# Altium schematic symbol library mcu_8bit_avr_mega16-32.SchLib: 39 symbols
Pins are listed as number, name and electrical type; pins without a type are passive.

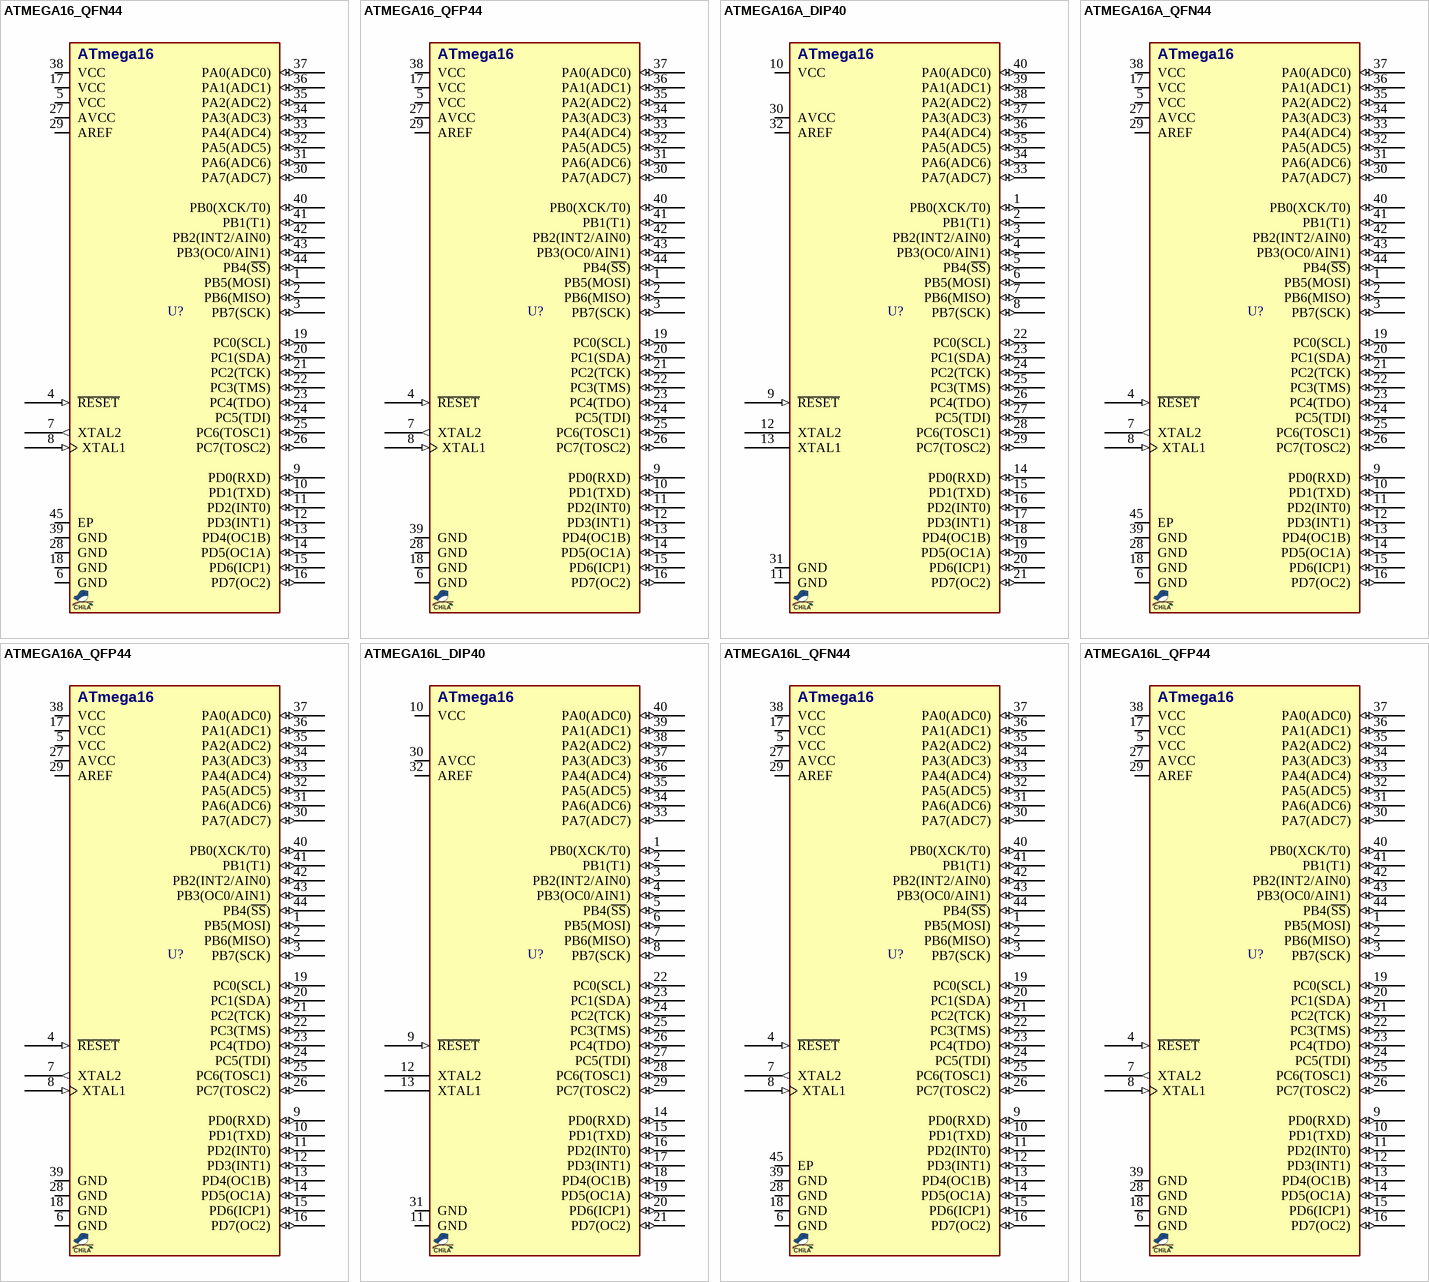
[diagram p0: symbols ATMEGA16_QFN44 to ATMEGA16L_QFP44]

## ATMEGA16_QFN44
designator U?, comment ATMEGA16  (value not drawn)
MCU, AVR, 8-Bit, 16KB, 1KB RAM, 16MHz; MANF_P#: ATMEGA16-16MU; DESC: 512B EEPROM; MANF: ATMEL/MICROCHIP; PARAM2: 4.5~5.5V; PARAM: 16KB, 1KB RAM, 16MHz, -40~85°C; PRICE: 4.5$; VALUE: ATMEGA16
footprint QFN50_44T (QFN-44, 44ML, pitch:0.5mm, 7x7x1mm)
pins: 1 PB5(MOSI) (io), 2 PB6(MISO) (io), 3 PB7(SCK) (io), 4 ~{RESET} (in), 5 VCC (power), 6 GND (power), 7 XTAL2 (out), 8 XTAL1 (in), 9 PD0(RXD) (io), 10 PD1(TXD) (io), 11 PD2(INT0) (io), 12 PD3(INT1) (io), 13 PD4(OC1B) (io), 14 PD5(OC1A) (io), 15 PD6(ICP1) (io), 16 PD7(OC2) (io), 17 VCC (power), 18 GND (power), 19 PC0(SCL) (io), 20 PC1(SDA) (io), 21 PC2(TCK) (io), 22 PC3(TMS) (io), 23 PC4(TDO) (io), 24 PC5(TDI) (io), 25 PC6(TOSC1) (io), 26 PC7(TOSC2) (io), 27 AVCC (power), 28 GND (power), 29 AREF (power), 30 PA7(ADC7) (io), 31 PA6(ADC6) (io), 32 PA5(ADC5) (io), 33 PA4(ADC4) (io), 34 PA3(ADC3) (io), 35 PA2(ADC2) (io), 36 PA1(ADC1) (io), 37 PA0(ADC0) (io), 38 VCC (power), 39 GND (power), 40 PB0(XCK/T0) (io), 41 PB1(T1) (io), 42 PB2(INT2/AIN0) (io), 43 PB3(OC0/AIN1) (io), 44 PB4(~{SS}) (io), 45 EP (power)
text: ATmega16

## ATMEGA16_QFP44
designator U?, comment ATMEGA16  (value not drawn)
MCU, AVR, 8-Bit, 16KB, 1KB RAM, 16MHz; MANF_P#: ATMEGA16-16AU; DESC: 512B EEPROM; MANF: ATMEL/MICROCHIP; PARAM2: 4.5~5.5V; PARAM: 16KB, 1KB RAM, 16MHz, -40~85°C; PRICE: 4.5$; VALUE: ATMEGA16
footprint QFG80_44 (TQFP44, PQFP44, A44 (Cypress), QFP44/MQFP44N (Dallas), VQ44,VQG44 (Xilinx), MS-026ACB, MS-022AB(JEDEC), 44A, 10.5X10.5, 0.8mm)
pins: 1 PB5(MOSI) (io), 2 PB6(MISO) (io), 3 PB7(SCK) (io), 4 ~{RESET} (in), 5 VCC (power), 6 GND (power), 7 XTAL2 (out), 8 XTAL1 (in), 9 PD0(RXD) (io), 10 PD1(TXD) (io), 11 PD2(INT0) (io), 12 PD3(INT1) (io), 13 PD4(OC1B) (io), 14 PD5(OC1A) (io), 15 PD6(ICP1) (io), 16 PD7(OC2) (io), 17 VCC (power), 18 GND (power), 19 PC0(SCL) (io), 20 PC1(SDA) (io), 21 PC2(TCK) (io), 22 PC3(TMS) (io), 23 PC4(TDO) (io), 24 PC5(TDI) (io), 25 PC6(TOSC1) (io), 26 PC7(TOSC2) (io), 27 AVCC (power), 28 GND (power), 29 AREF (power), 30 PA7(ADC7) (io), 31 PA6(ADC6) (io), 32 PA5(ADC5) (io), 33 PA4(ADC4) (io), 34 PA3(ADC3) (io), 35 PA2(ADC2) (io), 36 PA1(ADC1) (io), 37 PA0(ADC0) (io), 38 VCC (power), 39 GND (power), 40 PB0(XCK/T0) (io), 41 PB1(T1) (io), 42 PB2(INT2/AIN0) (io), 43 PB3(OC0/AIN1) (io), 44 PB4(~{SS}) (io)
text: ATmega16

## ATMEGA16A_DIP40
designator U?, comment ATMEGA16  (value not drawn)
MCU, AVR, 8-Bit, 16KB, 1KB RAM, 16MHz; MANF_P#: ATMEGA16A-PU; DESC: 512B EEPROM; MANF: ATMEL/MICROCHIP; PARAM2: 2.7~5.5V; PARAM: 16KB, 1KB RAM, 16MHz, -40~85°C; PRICE: 3.2$; VALUE: ATMEGA16
footprint DIP_40DW (DIP, pitch 2.54mm, 600mil Width)
pins: 1 PB0(XCK/T0) (io), 2 PB1(T1) (io), 3 PB2(INT2/AIN0) (io), 4 PB3(OC0/AIN1) (io), 5 PB4(~{SS}) (io), 6 PB5(MOSI) (io), 7 PB6(MISO) (io), 8 PB7(SCK) (io), 9 ~{RESET} (in), 10 VCC (power), 11 GND (power), 12 XTAL2, 13 XTAL1, 14 PD0(RXD) (io), 15 PD1(TXD) (io), 16 PD2(INT0) (io), 17 PD3(INT1) (io), 18 PD4(OC1B) (io), 19 PD5(OC1A) (io), 20 PD6(ICP1) (io), 21 PD7(OC2) (io), 22 PC0(SCL) (io), 23 PC1(SDA) (io), 24 PC2(TCK) (io), 25 PC3(TMS) (io), 26 PC4(TDO) (io), 27 PC5(TDI) (io), 28 PC6(TOSC1) (io), 29 PC7(TOSC2) (io), 30 AVCC (power), 31 GND (power), 32 AREF (power), 33 PA7(ADC7) (io), 34 PA6(ADC6) (io), 35 PA5(ADC5) (io), 36 PA4(ADC4) (io), 37 PA3(ADC3) (io), 38 PA2(ADC2) (io), 39 PA1(ADC1) (io), 40 PA0(ADC0) (io)
text: ATmega16

## ATMEGA16A_QFN44
designator U?, comment ATMEGA16  (value not drawn)
MCU, AVR, 8-Bit, 16KB, 1KB RAM, 16MHz; MANF_P#: ATMEGA16A-MU; DESC: 512B EEPROM; MANF: ATMEL/MICROCHIP; PARAM2: 2.7~5.5V; PARAM: 16KB, 1KB RAM, 16MHz, -40~85°C; PRICE: 3$; VALUE: ATMEGA16
footprint QFN50_44T (QFN-44, 44ML, pitch:0.5mm, 7x7x1mm)
pins: 1 PB5(MOSI) (io), 2 PB6(MISO) (io), 3 PB7(SCK) (io), 4 ~{RESET} (in), 5 VCC (power), 6 GND (power), 7 XTAL2 (out), 8 XTAL1 (in), 9 PD0(RXD) (io), 10 PD1(TXD) (io), 11 PD2(INT0) (io), 12 PD3(INT1) (io), 13 PD4(OC1B) (io), 14 PD5(OC1A) (io), 15 PD6(ICP1) (io), 16 PD7(OC2) (io), 17 VCC (power), 18 GND (power), 19 PC0(SCL) (io), 20 PC1(SDA) (io), 21 PC2(TCK) (io), 22 PC3(TMS) (io), 23 PC4(TDO) (io), 24 PC5(TDI) (io), 25 PC6(TOSC1) (io), 26 PC7(TOSC2) (io), 27 AVCC (power), 28 GND (power), 29 AREF (power), 30 PA7(ADC7) (io), 31 PA6(ADC6) (io), 32 PA5(ADC5) (io), 33 PA4(ADC4) (io), 34 PA3(ADC3) (io), 35 PA2(ADC2) (io), 36 PA1(ADC1) (io), 37 PA0(ADC0) (io), 38 VCC (power), 39 GND (power), 40 PB0(XCK/T0) (io), 41 PB1(T1) (io), 42 PB2(INT2/AIN0) (io), 43 PB3(OC0/AIN1) (io), 44 PB4(~{SS}) (io), 45 EP (power)
text: ATmega16

## ATMEGA16A_QFP44
designator U?, comment ATMEGA16  (value not drawn)
MCU, AVR, 8-Bit, 16KB, 1KB RAM, 16MHz; MANF_P#: ATMEGA16A-AU; DESC: 512B EEPROM; MANF: ATMEL/MICROCHIP; PARAM2: 2.7~5.5V; PARAM: 16KB, 1KB RAM, 16MHz, -40~85°C; PRICE: 3$; VALUE: ATMEGA16
footprint QFG80_44 (TQFP44, PQFP44, A44 (Cypress), QFP44/MQFP44N (Dallas), VQ44,VQG44 (Xilinx), MS-026ACB, MS-022AB(JEDEC), 44A, 10.5X10.5, 0.8mm)
pins: 1 PB5(MOSI) (io), 2 PB6(MISO) (io), 3 PB7(SCK) (io), 4 ~{RESET} (in), 5 VCC (power), 6 GND (power), 7 XTAL2 (out), 8 XTAL1 (in), 9 PD0(RXD) (io), 10 PD1(TXD) (io), 11 PD2(INT0) (io), 12 PD3(INT1) (io), 13 PD4(OC1B) (io), 14 PD5(OC1A) (io), 15 PD6(ICP1) (io), 16 PD7(OC2) (io), 17 VCC (power), 18 GND (power), 19 PC0(SCL) (io), 20 PC1(SDA) (io), 21 PC2(TCK) (io), 22 PC3(TMS) (io), 23 PC4(TDO) (io), 24 PC5(TDI) (io), 25 PC6(TOSC1) (io), 26 PC7(TOSC2) (io), 27 AVCC (power), 28 GND (power), 29 AREF (power), 30 PA7(ADC7) (io), 31 PA6(ADC6) (io), 32 PA5(ADC5) (io), 33 PA4(ADC4) (io), 34 PA3(ADC3) (io), 35 PA2(ADC2) (io), 36 PA1(ADC1) (io), 37 PA0(ADC0) (io), 38 VCC (power), 39 GND (power), 40 PB0(XCK/T0) (io), 41 PB1(T1) (io), 42 PB2(INT2/AIN0) (io), 43 PB3(OC0/AIN1) (io), 44 PB4(~{SS}) (io)
text: ATmega16

## ATMEGA16L_DIP40
designator U?, comment ATMEGA16  (value not drawn)
MCU, AVR, 8-Bit, 16KB, 1KB RAM, 8MHz; MANF_P#: ATMEGA16L-8PU; DESC: 512B EEPROM; MANF: ATMEL/MICROCHIP; PARAM2: 2.7~5.5V; PARAM: 16KB, 1KB RAM, 8MHz, -40~85°C; PRICE: 4.6$; VALUE: ATMEGA16
footprint DIP_40DW (DIP, pitch 2.54mm, 600mil Width)
pins: 1 PB0(XCK/T0) (io), 2 PB1(T1) (io), 3 PB2(INT2/AIN0) (io), 4 PB3(OC0/AIN1) (io), 5 PB4(~{SS}) (io), 6 PB5(MOSI) (io), 7 PB6(MISO) (io), 8 PB7(SCK) (io), 9 ~{RESET} (in), 10 VCC (power), 11 GND (power), 12 XTAL2, 13 XTAL1, 14 PD0(RXD) (io), 15 PD1(TXD) (io), 16 PD2(INT0) (io), 17 PD3(INT1) (io), 18 PD4(OC1B) (io), 19 PD5(OC1A) (io), 20 PD6(ICP1) (io), 21 PD7(OC2) (io), 22 PC0(SCL) (io), 23 PC1(SDA) (io), 24 PC2(TCK) (io), 25 PC3(TMS) (io), 26 PC4(TDO) (io), 27 PC5(TDI) (io), 28 PC6(TOSC1) (io), 29 PC7(TOSC2) (io), 30 AVCC (power), 31 GND (power), 32 AREF (power), 33 PA7(ADC7) (io), 34 PA6(ADC6) (io), 35 PA5(ADC5) (io), 36 PA4(ADC4) (io), 37 PA3(ADC3) (io), 38 PA2(ADC2) (io), 39 PA1(ADC1) (io), 40 PA0(ADC0) (io)
text: ATmega16

## ATMEGA16L_QFN44
designator U?, comment ATMEGA16  (value not drawn)
MCU, AVR, 8-Bit, 16KB, 1KB RAM, 8MHz; MANF_P#: ATMEGA16L-8MU; DESC: 512B EEPROM; MANF: ATMEL/MICROCHIP; PARAM2: 2.7~5.5V; PARAM: 16KB, 1KB RAM, 8MHz, -40~85°C; PRICE: 4.6$; VALUE: ATMEGA16
footprint QFN50_44T (QFN-44, 44ML, pitch:0.5mm, 7x7x1mm)
pins: 1 PB5(MOSI) (io), 2 PB6(MISO) (io), 3 PB7(SCK) (io), 4 ~{RESET} (in), 5 VCC (power), 6 GND (power), 7 XTAL2 (out), 8 XTAL1 (in), 9 PD0(RXD) (io), 10 PD1(TXD) (io), 11 PD2(INT0) (io), 12 PD3(INT1) (io), 13 PD4(OC1B) (io), 14 PD5(OC1A) (io), 15 PD6(ICP1) (io), 16 PD7(OC2) (io), 17 VCC (power), 18 GND (power), 19 PC0(SCL) (io), 20 PC1(SDA) (io), 21 PC2(TCK) (io), 22 PC3(TMS) (io), 23 PC4(TDO) (io), 24 PC5(TDI) (io), 25 PC6(TOSC1) (io), 26 PC7(TOSC2) (io), 27 AVCC (power), 28 GND (power), 29 AREF (power), 30 PA7(ADC7) (io), 31 PA6(ADC6) (io), 32 PA5(ADC5) (io), 33 PA4(ADC4) (io), 34 PA3(ADC3) (io), 35 PA2(ADC2) (io), 36 PA1(ADC1) (io), 37 PA0(ADC0) (io), 38 VCC (power), 39 GND (power), 40 PB0(XCK/T0) (io), 41 PB1(T1) (io), 42 PB2(INT2/AIN0) (io), 43 PB3(OC0/AIN1) (io), 44 PB4(~{SS}) (io), 45 EP (power)
text: ATmega16

## ATMEGA16L_QFP44
designator U?, comment ATMEGA16  (value not drawn)
MCU, AVR, 8-Bit, 16KB, 1KB RAM, 8MHz; MANF_P#: ATMEGA16L-8AU; DESC: 512B EEPROM; MANF: ATMEL/MICROCHIP; PARAM2: 2.7~5.5V; PARAM: 16KB, 1KB RAM, 8MHz, -40~85°C; PRICE: 4.6$; VALUE: ATMEGA16
footprint QFG80_44 (TQFP44, PQFP44, A44 (Cypress), QFP44/MQFP44N (Dallas), VQ44,VQG44 (Xilinx), MS-026ACB, MS-022AB(JEDEC), 44A, 10.5X10.5, 0.8mm)
pins: 1 PB5(MOSI) (io), 2 PB6(MISO) (io), 3 PB7(SCK) (io), 4 ~{RESET} (in), 5 VCC (power), 6 GND (power), 7 XTAL2 (out), 8 XTAL1 (in), 9 PD0(RXD) (io), 10 PD1(TXD) (io), 11 PD2(INT0) (io), 12 PD3(INT1) (io), 13 PD4(OC1B) (io), 14 PD5(OC1A) (io), 15 PD6(ICP1) (io), 16 PD7(OC2) (io), 17 VCC (power), 18 GND (power), 19 PC0(SCL) (io), 20 PC1(SDA) (io), 21 PC2(TCK) (io), 22 PC3(TMS) (io), 23 PC4(TDO) (io), 24 PC5(TDI) (io), 25 PC6(TOSC1) (io), 26 PC7(TOSC2) (io), 27 AVCC (power), 28 GND (power), 29 AREF (power), 30 PA7(ADC7) (io), 31 PA6(ADC6) (io), 32 PA5(ADC5) (io), 33 PA4(ADC4) (io), 34 PA3(ADC3) (io), 35 PA2(ADC2) (io), 36 PA1(ADC1) (io), 37 PA0(ADC0) (io), 38 VCC (power), 39 GND (power), 40 PB0(XCK/T0) (io), 41 PB1(T1) (io), 42 PB2(INT2/AIN0) (io), 43 PB3(OC0/AIN1) (io), 44 PB4(~{SS}) (io)
text: ATmega16

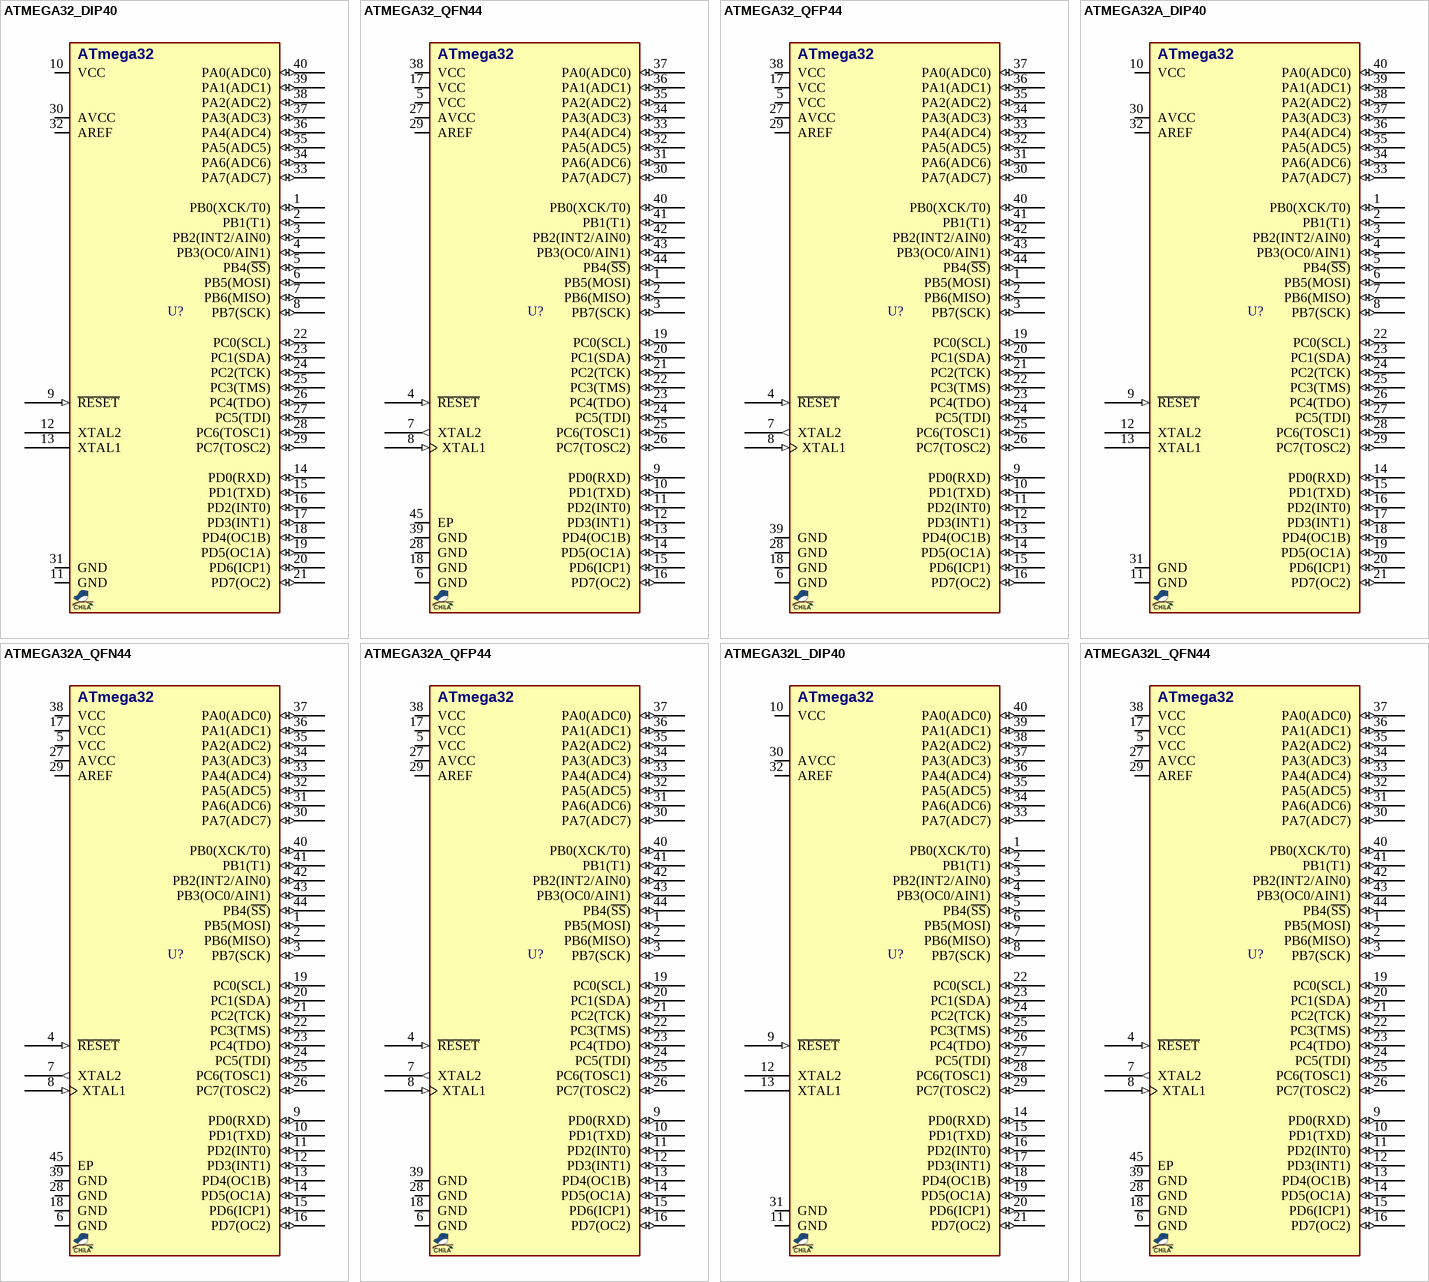
[diagram p1: symbols ATMEGA32_DIP40 to ATMEGA32L_QFN44]

## ATMEGA32_DIP40
designator U?, comment ATMEGA32  (value not drawn)
MCU, AVR, 8-Bit, 32KB, 2KB RAM, 16MHz; MANF_P#: ATMEGA32-16PU; DESC: 1KB EEPROM; MANF: ATMEL/MICROCHIP; PARAM2: 4.5~5.5V; PARAM: 32KB, 2KB RAM, 16MHz, -40~85°C; PRICE: 5.5$; VALUE: ATMEGA32
footprint DIP_40DW (DIP, pitch 2.54mm, 600mil Width)
pins: 1 PB0(XCK/T0) (io), 2 PB1(T1) (io), 3 PB2(INT2/AIN0) (io), 4 PB3(OC0/AIN1) (io), 5 PB4(~{SS}) (io), 6 PB5(MOSI) (io), 7 PB6(MISO) (io), 8 PB7(SCK) (io), 9 ~{RESET} (in), 10 VCC (power), 11 GND (power), 12 XTAL2, 13 XTAL1, 14 PD0(RXD) (io), 15 PD1(TXD) (io), 16 PD2(INT0) (io), 17 PD3(INT1) (io), 18 PD4(OC1B) (io), 19 PD5(OC1A) (io), 20 PD6(ICP1) (io), 21 PD7(OC2) (io), 22 PC0(SCL) (io), 23 PC1(SDA) (io), 24 PC2(TCK) (io), 25 PC3(TMS) (io), 26 PC4(TDO) (io), 27 PC5(TDI) (io), 28 PC6(TOSC1) (io), 29 PC7(TOSC2) (io), 30 AVCC (power), 31 GND (power), 32 AREF (power), 33 PA7(ADC7) (io), 34 PA6(ADC6) (io), 35 PA5(ADC5) (io), 36 PA4(ADC4) (io), 37 PA3(ADC3) (io), 38 PA2(ADC2) (io), 39 PA1(ADC1) (io), 40 PA0(ADC0) (io)
text: ATmega32

## ATMEGA32_QFN44
designator U?, comment ATMEGA32  (value not drawn)
MCU, AVR, 8-Bit, 32KB, 2KB RAM, 16MHz; MANF_P#: ATMEGA32-16MU; DESC: 1KB EEPROM; MANF: ATMEL/MICROCHIP; PARAM2: 4.5~5.5V; PARAM: 32KB, 2KB RAM, 16MHz, -40~85°C; PRICE: 5.5$; VALUE: ATMEGA32
footprint QFN50_44T (QFN-44, 44ML, pitch:0.5mm, 7x7x1mm)
pins: 1 PB5(MOSI) (io), 2 PB6(MISO) (io), 3 PB7(SCK) (io), 4 ~{RESET} (in), 5 VCC (power), 6 GND (power), 7 XTAL2 (out), 8 XTAL1 (in), 9 PD0(RXD) (io), 10 PD1(TXD) (io), 11 PD2(INT0) (io), 12 PD3(INT1) (io), 13 PD4(OC1B) (io), 14 PD5(OC1A) (io), 15 PD6(ICP1) (io), 16 PD7(OC2) (io), 17 VCC (power), 18 GND (power), 19 PC0(SCL) (io), 20 PC1(SDA) (io), 21 PC2(TCK) (io), 22 PC3(TMS) (io), 23 PC4(TDO) (io), 24 PC5(TDI) (io), 25 PC6(TOSC1) (io), 26 PC7(TOSC2) (io), 27 AVCC (power), 28 GND (power), 29 AREF (power), 30 PA7(ADC7) (io), 31 PA6(ADC6) (io), 32 PA5(ADC5) (io), 33 PA4(ADC4) (io), 34 PA3(ADC3) (io), 35 PA2(ADC2) (io), 36 PA1(ADC1) (io), 37 PA0(ADC0) (io), 38 VCC (power), 39 GND (power), 40 PB0(XCK/T0) (io), 41 PB1(T1) (io), 42 PB2(INT2/AIN0) (io), 43 PB3(OC0/AIN1) (io), 44 PB4(~{SS}) (io), 45 EP (power)
text: ATmega32

## ATMEGA32_QFP44
designator U?, comment ATMEGA32  (value not drawn)
MCU, AVR, 8-Bit, 32KB, 2KB RAM, 16MHz; MANF_P#: ATMEGA32-16AU; DESC: 1KB EEPROM; MANF: ATMEL/MICROCHIP; PARAM2: 4.5~5.5V; PARAM: 32KB, 2KB RAM, 16MHz, -40~85°C; PRICE: 5.5$; VALUE: ATMEGA32
footprint QFG80_44 (TQFP44, PQFP44, A44 (Cypress), QFP44/MQFP44N (Dallas), VQ44,VQG44 (Xilinx), MS-026ACB, MS-022AB(JEDEC), 44A, 10.5X10.5, 0.8mm)
pins: 1 PB5(MOSI) (io), 2 PB6(MISO) (io), 3 PB7(SCK) (io), 4 ~{RESET} (in), 5 VCC (power), 6 GND (power), 7 XTAL2 (out), 8 XTAL1 (in), 9 PD0(RXD) (io), 10 PD1(TXD) (io), 11 PD2(INT0) (io), 12 PD3(INT1) (io), 13 PD4(OC1B) (io), 14 PD5(OC1A) (io), 15 PD6(ICP1) (io), 16 PD7(OC2) (io), 17 VCC (power), 18 GND (power), 19 PC0(SCL) (io), 20 PC1(SDA) (io), 21 PC2(TCK) (io), 22 PC3(TMS) (io), 23 PC4(TDO) (io), 24 PC5(TDI) (io), 25 PC6(TOSC1) (io), 26 PC7(TOSC2) (io), 27 AVCC (power), 28 GND (power), 29 AREF (power), 30 PA7(ADC7) (io), 31 PA6(ADC6) (io), 32 PA5(ADC5) (io), 33 PA4(ADC4) (io), 34 PA3(ADC3) (io), 35 PA2(ADC2) (io), 36 PA1(ADC1) (io), 37 PA0(ADC0) (io), 38 VCC (power), 39 GND (power), 40 PB0(XCK/T0) (io), 41 PB1(T1) (io), 42 PB2(INT2/AIN0) (io), 43 PB3(OC0/AIN1) (io), 44 PB4(~{SS}) (io)
text: ATmega32

## ATMEGA32A_DIP40
designator U?, comment ATMEGA32  (value not drawn)
MCU, AVR, 8-Bit, 32KB, 2KB RAM, 16MHz; MANF_P#: ATMEGA32A-PU; DESC: 1KB EEPROM; MANF: ATMEL/MICROCHIP; PARAM2: 2.7~5.5V; PARAM: 32KB, 2KB RAM, 16MHz, -40~85°C; PRICE: 3.5$; VALUE: ATMEGA32
footprint DIP_40DW (DIP, pitch 2.54mm, 600mil Width)
pins: 1 PB0(XCK/T0) (io), 2 PB1(T1) (io), 3 PB2(INT2/AIN0) (io), 4 PB3(OC0/AIN1) (io), 5 PB4(~{SS}) (io), 6 PB5(MOSI) (io), 7 PB6(MISO) (io), 8 PB7(SCK) (io), 9 ~{RESET} (in), 10 VCC (power), 11 GND (power), 12 XTAL2, 13 XTAL1, 14 PD0(RXD) (io), 15 PD1(TXD) (io), 16 PD2(INT0) (io), 17 PD3(INT1) (io), 18 PD4(OC1B) (io), 19 PD5(OC1A) (io), 20 PD6(ICP1) (io), 21 PD7(OC2) (io), 22 PC0(SCL) (io), 23 PC1(SDA) (io), 24 PC2(TCK) (io), 25 PC3(TMS) (io), 26 PC4(TDO) (io), 27 PC5(TDI) (io), 28 PC6(TOSC1) (io), 29 PC7(TOSC2) (io), 30 AVCC (power), 31 GND (power), 32 AREF (power), 33 PA7(ADC7) (io), 34 PA6(ADC6) (io), 35 PA5(ADC5) (io), 36 PA4(ADC4) (io), 37 PA3(ADC3) (io), 38 PA2(ADC2) (io), 39 PA1(ADC1) (io), 40 PA0(ADC0) (io)
text: ATmega32

## ATMEGA32A_QFN44
designator U?, comment ATMEGA32  (value not drawn)
MCU, AVR, 8-Bit, 32KB, 2KB RAM, 16MHz; MANF_P#: ATMEGA32A-MU; DESC: 1KB EEPROM; MANF: ATMEL/MICROCHIP; PARAM2: 2.7~5.5V; PARAM: 32KB, 2KB RAM, 16MHz, -40~85°C; PRICE: 3$; VALUE: ATMEGA32
footprint QFN50_44T (QFN-44, 44ML, pitch:0.5mm, 7x7x1mm)
pins: 1 PB5(MOSI) (io), 2 PB6(MISO) (io), 3 PB7(SCK) (io), 4 ~{RESET} (in), 5 VCC (power), 6 GND (power), 7 XTAL2 (out), 8 XTAL1 (in), 9 PD0(RXD) (io), 10 PD1(TXD) (io), 11 PD2(INT0) (io), 12 PD3(INT1) (io), 13 PD4(OC1B) (io), 14 PD5(OC1A) (io), 15 PD6(ICP1) (io), 16 PD7(OC2) (io), 17 VCC (power), 18 GND (power), 19 PC0(SCL) (io), 20 PC1(SDA) (io), 21 PC2(TCK) (io), 22 PC3(TMS) (io), 23 PC4(TDO) (io), 24 PC5(TDI) (io), 25 PC6(TOSC1) (io), 26 PC7(TOSC2) (io), 27 AVCC (power), 28 GND (power), 29 AREF (power), 30 PA7(ADC7) (io), 31 PA6(ADC6) (io), 32 PA5(ADC5) (io), 33 PA4(ADC4) (io), 34 PA3(ADC3) (io), 35 PA2(ADC2) (io), 36 PA1(ADC1) (io), 37 PA0(ADC0) (io), 38 VCC (power), 39 GND (power), 40 PB0(XCK/T0) (io), 41 PB1(T1) (io), 42 PB2(INT2/AIN0) (io), 43 PB3(OC0/AIN1) (io), 44 PB4(~{SS}) (io), 45 EP (power)
text: ATmega32

## ATMEGA32A_QFP44
designator U?, comment ATMEGA32  (value not drawn)
MCU, AVR, 8-Bit, 32KB, 2KB RAM, 16MHz; MANF_P#: ATMEGA32A-AU; DESC: 1KB EEPROM; MANF: ATMEL/MICROCHIP; PARAM2: 2.7~5.5V; PARAM: 32KB, 2KB RAM, 16MHz, -40~85°C; PRICE: 3$; VALUE: ATMEGA32
footprint QFG80_44 (TQFP44, PQFP44, A44 (Cypress), QFP44/MQFP44N (Dallas), VQ44,VQG44 (Xilinx), MS-026ACB, MS-022AB(JEDEC), 44A, 10.5X10.5, 0.8mm)
pins: 1 PB5(MOSI) (io), 2 PB6(MISO) (io), 3 PB7(SCK) (io), 4 ~{RESET} (in), 5 VCC (power), 6 GND (power), 7 XTAL2 (out), 8 XTAL1 (in), 9 PD0(RXD) (io), 10 PD1(TXD) (io), 11 PD2(INT0) (io), 12 PD3(INT1) (io), 13 PD4(OC1B) (io), 14 PD5(OC1A) (io), 15 PD6(ICP1) (io), 16 PD7(OC2) (io), 17 VCC (power), 18 GND (power), 19 PC0(SCL) (io), 20 PC1(SDA) (io), 21 PC2(TCK) (io), 22 PC3(TMS) (io), 23 PC4(TDO) (io), 24 PC5(TDI) (io), 25 PC6(TOSC1) (io), 26 PC7(TOSC2) (io), 27 AVCC (power), 28 GND (power), 29 AREF (power), 30 PA7(ADC7) (io), 31 PA6(ADC6) (io), 32 PA5(ADC5) (io), 33 PA4(ADC4) (io), 34 PA3(ADC3) (io), 35 PA2(ADC2) (io), 36 PA1(ADC1) (io), 37 PA0(ADC0) (io), 38 VCC (power), 39 GND (power), 40 PB0(XCK/T0) (io), 41 PB1(T1) (io), 42 PB2(INT2/AIN0) (io), 43 PB3(OC0/AIN1) (io), 44 PB4(~{SS}) (io)
text: ATmega32

## ATMEGA32L_DIP40
designator U?, comment ATMEGA32  (value not drawn)
MCU, AVR, 8-Bit, 32KB, 2KB RAM, 8MHz; MANF_P#: ATMEGA32L-8PU; DESC: 1KB EEPROM; MANF: ATMEL/MICROCHIP; PARAM2: 2.7~5.5V; PARAM: 32KB, 2KB RAM, 8MHz, -40~85°C; PRICE: 5.5$; VALUE: ATMEGA32
footprint DIP_40DW (DIP, pitch 2.54mm, 600mil Width)
pins: 1 PB0(XCK/T0) (io), 2 PB1(T1) (io), 3 PB2(INT2/AIN0) (io), 4 PB3(OC0/AIN1) (io), 5 PB4(~{SS}) (io), 6 PB5(MOSI) (io), 7 PB6(MISO) (io), 8 PB7(SCK) (io), 9 ~{RESET} (in), 10 VCC (power), 11 GND (power), 12 XTAL2, 13 XTAL1, 14 PD0(RXD) (io), 15 PD1(TXD) (io), 16 PD2(INT0) (io), 17 PD3(INT1) (io), 18 PD4(OC1B) (io), 19 PD5(OC1A) (io), 20 PD6(ICP1) (io), 21 PD7(OC2) (io), 22 PC0(SCL) (io), 23 PC1(SDA) (io), 24 PC2(TCK) (io), 25 PC3(TMS) (io), 26 PC4(TDO) (io), 27 PC5(TDI) (io), 28 PC6(TOSC1) (io), 29 PC7(TOSC2) (io), 30 AVCC (power), 31 GND (power), 32 AREF (power), 33 PA7(ADC7) (io), 34 PA6(ADC6) (io), 35 PA5(ADC5) (io), 36 PA4(ADC4) (io), 37 PA3(ADC3) (io), 38 PA2(ADC2) (io), 39 PA1(ADC1) (io), 40 PA0(ADC0) (io)
text: ATmega32

## ATMEGA32L_QFN44
designator U?, comment ATMEGA32  (value not drawn)
MCU, AVR, 8-Bit, 32KB, 2KB RAM, 8MHz; MANF_P#: ATMEGA32L-8MU; DESC: 1KB EEPROM; MANF: ATMEL/MICROCHIP; PARAM2: 2.7~5.5V; PARAM: 32KB, 2KB RAM, 8MHz, -40~85°C; PRICE: 5.5$; VALUE: ATMEGA32
footprint QFN50_44T (QFN-44, 44ML, pitch:0.5mm, 7x7x1mm)
pins: 1 PB5(MOSI) (io), 2 PB6(MISO) (io), 3 PB7(SCK) (io), 4 ~{RESET} (in), 5 VCC (power), 6 GND (power), 7 XTAL2 (out), 8 XTAL1 (in), 9 PD0(RXD) (io), 10 PD1(TXD) (io), 11 PD2(INT0) (io), 12 PD3(INT1) (io), 13 PD4(OC1B) (io), 14 PD5(OC1A) (io), 15 PD6(ICP1) (io), 16 PD7(OC2) (io), 17 VCC (power), 18 GND (power), 19 PC0(SCL) (io), 20 PC1(SDA) (io), 21 PC2(TCK) (io), 22 PC3(TMS) (io), 23 PC4(TDO) (io), 24 PC5(TDI) (io), 25 PC6(TOSC1) (io), 26 PC7(TOSC2) (io), 27 AVCC (power), 28 GND (power), 29 AREF (power), 30 PA7(ADC7) (io), 31 PA6(ADC6) (io), 32 PA5(ADC5) (io), 33 PA4(ADC4) (io), 34 PA3(ADC3) (io), 35 PA2(ADC2) (io), 36 PA1(ADC1) (io), 37 PA0(ADC0) (io), 38 VCC (power), 39 GND (power), 40 PB0(XCK/T0) (io), 41 PB1(T1) (io), 42 PB2(INT2/AIN0) (io), 43 PB3(OC0/AIN1) (io), 44 PB4(~{SS}) (io), 45 EP (power)
text: ATmega32

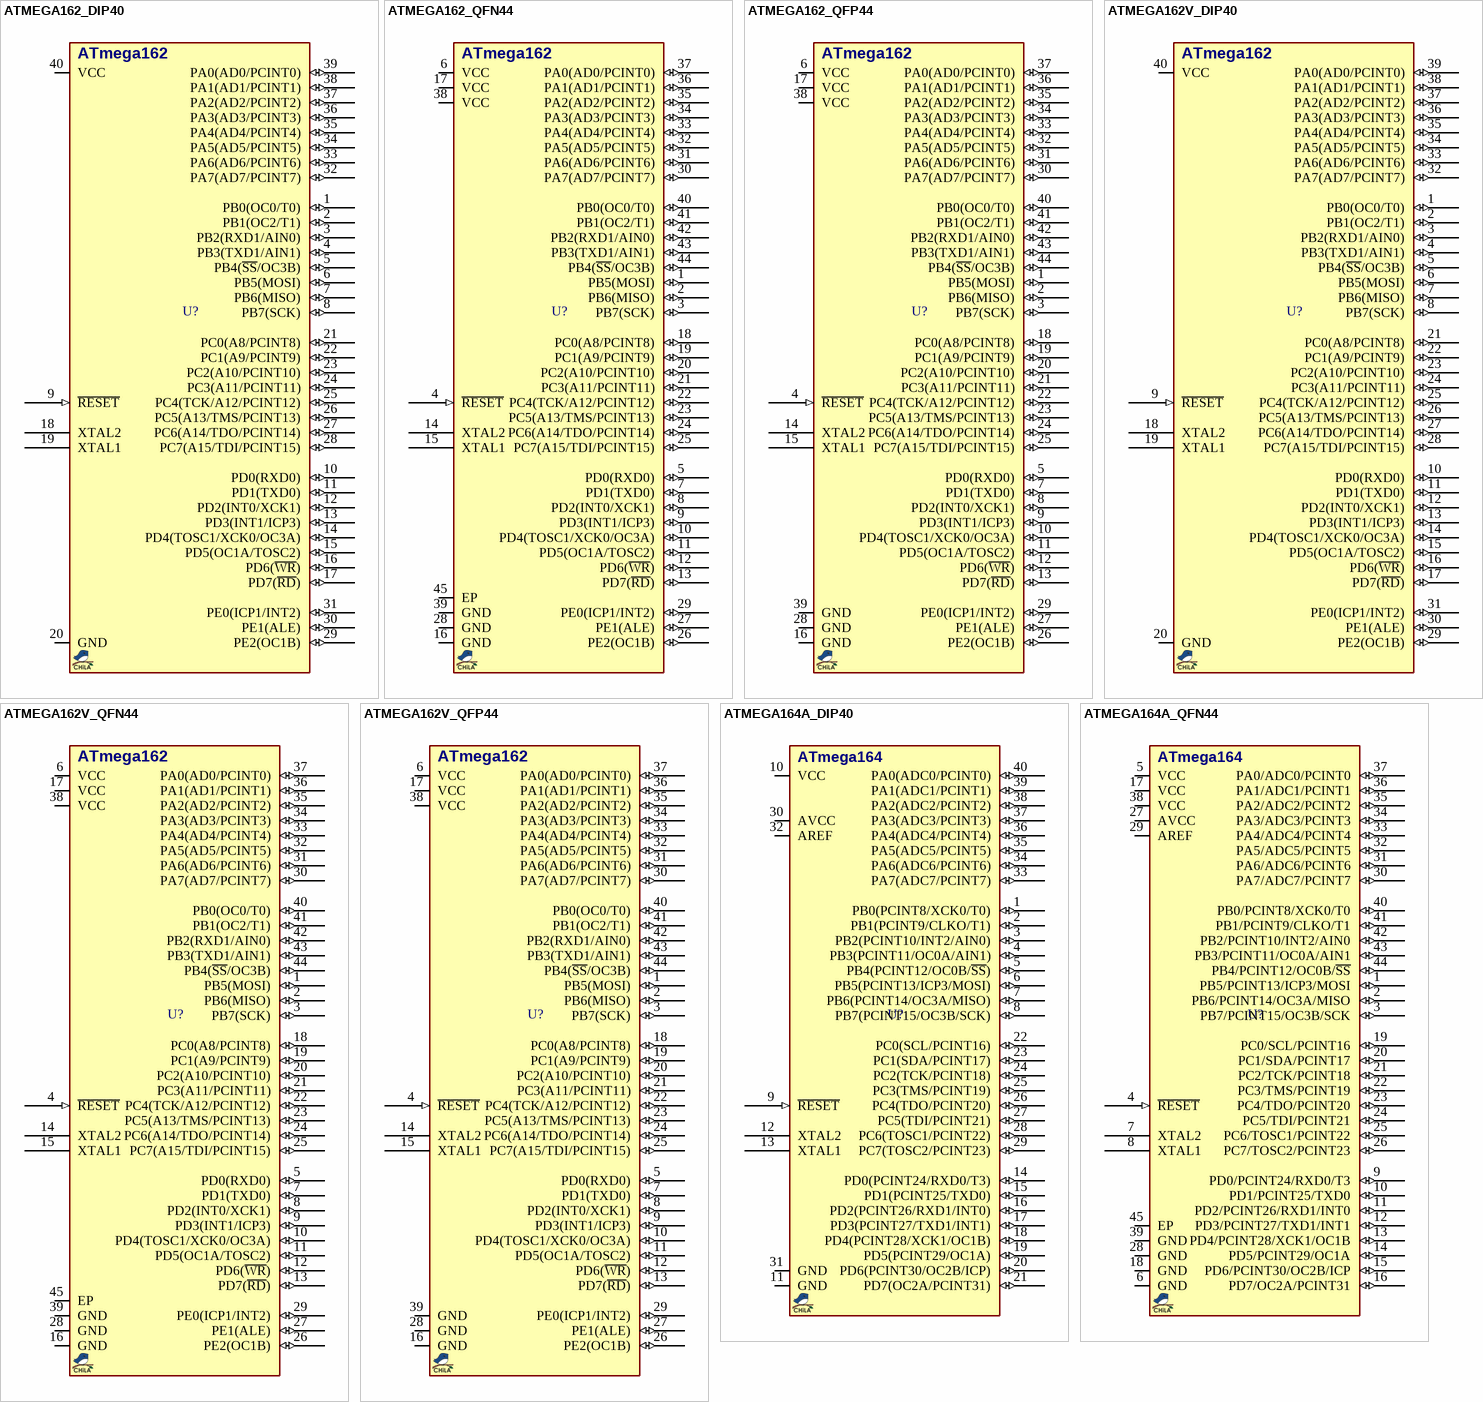
[diagram p2: symbols ATMEGA162_DIP40 to ATMEGA164A_QFN44]

## ATMEGA162_DIP40
designator U?, comment ATMEGA162  (value not drawn)
MCU, AVR, 8-Bit, 16KB, 1KB RAM, 16MHz, No ADC; MANF_P#: ATMEGA162-16PU; DESC: 512B EEPROM; MANF: ATMEL/MICROCHIP; PARAM2: 2.7~5.5V; PARAM: 16KB, 1KB RAM, 16MHz, -40~85°C; PRICE: 4.5$; VALUE: ATMEGA162
footprint DIP_40DW (DIP, pitch 2.54mm, 600mil Width)
pins: 1 PB0(OC0/T0) (io), 2 PB1(OC2/T1) (io), 3 PB2(RXD1/AIN0) (io), 4 PB3(TXD1/AIN1) (io), 5 PB4(~{SS}/OC3B) (io), 6 PB5(MOSI) (io), 7 PB6(MISO) (io), 8 PB7(SCK) (io), 9 ~{RESET} (in), 10 PD0(RXD0) (io), 11 PD1(TXD0) (io), 12 PD2(INT0/XCK1) (io), 13 PD3(INT1/ICP3) (io), 14 PD4(TOSC1/XCK0/OC3A) (io), 15 PD5(OC1A/TOSC2) (io), 16 PD6(~{WR}) (io), 17 PD7(~{RD}) (io), 18 XTAL2, 19 XTAL1, 20 GND (power), 21 PC0(A8/PCINT8) (io), 22 PC1(A9/PCINT9) (io), 23 PC2(A10/PCINT10) (io), 24 PC3(A11/PCINT11) (io), 25 PC4(TCK/A12/PCINT12) (io), 26 PC5(A13/TMS/PCINT13) (io), 27 PC6(A14/TDO/PCINT14) (io), 28 PC7(A15/TDI/PCINT15) (io), 29 PE2(OC1B) (io), 30 PE1(ALE) (io), 31 PE0(ICP1/INT2) (io), 32 PA7(AD7/PCINT7) (io), 33 PA6(AD6/PCINT6) (io), 34 PA5(AD5/PCINT5) (io), 35 PA4(AD4/PCINT4) (io), 36 PA3(AD3/PCINT3) (io), 37 PA2(AD2/PCINT2) (io), 38 PA1(AD1/PCINT1) (io), 39 PA0(AD0/PCINT0) (io), 40 VCC (power)
text: ATmega162

## ATMEGA162_QFN44
designator U?, comment ATMEGA162  (value not drawn)
MCU, AVR, 8-Bit, 16KB, 1KB RAM, 16MHz, No ADC; MANF_P#: ATMEGA162-16MU; DESC: 512B EEPROM; MANF: ATMEL/MICROCHIP; PARAM2: 2.7~5.5V; PARAM: 16KB, 1KB RAM, 16MHz, -40~85°C; PRICE: 4.5$; VALUE: ATMEGA162
footprint QFN50_44T (QFN-44, 44ML, pitch:0.5mm, 7x7x1mm)
pins: 1 PB5(MOSI) (io), 2 PB6(MISO) (io), 3 PB7(SCK) (io), 4 ~{RESET} (in), 5 PD0(RXD0) (io), 6 VCC (power), 7 PD1(TXD0) (io), 8 PD2(INT0/XCK1) (io), 9 PD3(INT1/ICP3) (io), 10 PD4(TOSC1/XCK0/OC3A) (io), 11 PD5(OC1A/TOSC2) (io), 12 PD6(~{WR}) (io), 13 PD7(~{RD}) (io), 14 XTAL2, 15 XTAL1, 16 GND (power), 17 VCC (power), 18 PC0(A8/PCINT8) (io), 19 PC1(A9/PCINT9) (io), 20 PC2(A10/PCINT10) (io), 21 PC3(A11/PCINT11) (io), 22 PC4(TCK/A12/PCINT12) (io), 23 PC5(A13/TMS/PCINT13) (io), 24 PC6(A14/TDO/PCINT14) (io), 25 PC7(A15/TDI/PCINT15) (io), 26 PE2(OC1B) (io), 27 PE1(ALE) (io), 28 GND (power), 29 PE0(ICP1/INT2) (io), 30 PA7(AD7/PCINT7) (io), 31 PA6(AD6/PCINT6) (io), 32 PA5(AD5/PCINT5) (io), 33 PA4(AD4/PCINT4) (io), 34 PA3(AD3/PCINT3) (io), 35 PA2(AD2/PCINT2) (io), 36 PA1(AD1/PCINT1) (io), 37 PA0(AD0/PCINT0) (io), 38 VCC (power), 39 GND (power), 40 PB0(OC0/T0) (io), 41 PB1(OC2/T1) (io), 42 PB2(RXD1/AIN0) (io), 43 PB3(TXD1/AIN1) (io), 44 PB4(~{SS}/OC3B) (io), 45 EP (power)
text: ATmega162

## ATMEGA162_QFP44
designator U?, comment ATMEGA162  (value not drawn)
MCU, AVR, 8-Bit, 16KB, 1KB RAM, 16MHz, No ADC; MANF_P#: ATMEGA162-16AU; DESC: 512B EEPROM; MANF: ATMEL/MICROCHIP; PARAM2: 2.7~5.5V; PARAM: 16KB, 1KB RAM, 16MHz, -40~85°C; PRICE: 4.5$; VALUE: ATMEGA162
footprint QFG80_44 (TQFP44, PQFP44, A44 (Cypress), QFP44/MQFP44N (Dallas), VQ44,VQG44 (Xilinx), MS-026ACB, MS-022AB(JEDEC), 44A, 10.5X10.5, 0.8mm)
pins: 1 PB5(MOSI) (io), 2 PB6(MISO) (io), 3 PB7(SCK) (io), 4 ~{RESET} (in), 5 PD0(RXD0) (io), 6 VCC (power), 7 PD1(TXD0) (io), 8 PD2(INT0/XCK1) (io), 9 PD3(INT1/ICP3) (io), 10 PD4(TOSC1/XCK0/OC3A) (io), 11 PD5(OC1A/TOSC2) (io), 12 PD6(~{WR}) (io), 13 PD7(~{RD}) (io), 14 XTAL2, 15 XTAL1, 16 GND (power), 17 VCC (power), 18 PC0(A8/PCINT8) (io), 19 PC1(A9/PCINT9) (io), 20 PC2(A10/PCINT10) (io), 21 PC3(A11/PCINT11) (io), 22 PC4(TCK/A12/PCINT12) (io), 23 PC5(A13/TMS/PCINT13) (io), 24 PC6(A14/TDO/PCINT14) (io), 25 PC7(A15/TDI/PCINT15) (io), 26 PE2(OC1B) (io), 27 PE1(ALE) (io), 28 GND (power), 29 PE0(ICP1/INT2) (io), 30 PA7(AD7/PCINT7) (io), 31 PA6(AD6/PCINT6) (io), 32 PA5(AD5/PCINT5) (io), 33 PA4(AD4/PCINT4) (io), 34 PA3(AD3/PCINT3) (io), 35 PA2(AD2/PCINT2) (io), 36 PA1(AD1/PCINT1) (io), 37 PA0(AD0/PCINT0) (io), 38 VCC (power), 39 GND (power), 40 PB0(OC0/T0) (io), 41 PB1(OC2/T1) (io), 42 PB2(RXD1/AIN0) (io), 43 PB3(TXD1/AIN1) (io), 44 PB4(~{SS}/OC3B) (io)
text: ATmega162

## ATMEGA162V_DIP40
designator U?, comment ATMEGA162  (value not drawn)
MCU, AVR, 8-Bit, 16KB, 1KB RAM, 8MHz, No ADC; MANF_P#: ATMEGA162V-8PU; DESC: 512B EEPROM; MANF: ATMEL/MICROCHIP; PARAM2: 1.8~5.5V; PARAM: 16KB, 1KB RAM, 8MHz, -40~85°C; PRICE: 4.5$; VALUE: ATMEGA162
footprint DIP_40DW (DIP, pitch 2.54mm, 600mil Width)
pins: 1 PB0(OC0/T0) (io), 2 PB1(OC2/T1) (io), 3 PB2(RXD1/AIN0) (io), 4 PB3(TXD1/AIN1) (io), 5 PB4(~{SS}/OC3B) (io), 6 PB5(MOSI) (io), 7 PB6(MISO) (io), 8 PB7(SCK) (io), 9 ~{RESET} (in), 10 PD0(RXD0) (io), 11 PD1(TXD0) (io), 12 PD2(INT0/XCK1) (io), 13 PD3(INT1/ICP3) (io), 14 PD4(TOSC1/XCK0/OC3A) (io), 15 PD5(OC1A/TOSC2) (io), 16 PD6(~{WR}) (io), 17 PD7(~{RD}) (io), 18 XTAL2, 19 XTAL1, 20 GND (power), 21 PC0(A8/PCINT8) (io), 22 PC1(A9/PCINT9) (io), 23 PC2(A10/PCINT10) (io), 24 PC3(A11/PCINT11) (io), 25 PC4(TCK/A12/PCINT12) (io), 26 PC5(A13/TMS/PCINT13) (io), 27 PC6(A14/TDO/PCINT14) (io), 28 PC7(A15/TDI/PCINT15) (io), 29 PE2(OC1B) (io), 30 PE1(ALE) (io), 31 PE0(ICP1/INT2) (io), 32 PA7(AD7/PCINT7) (io), 33 PA6(AD6/PCINT6) (io), 34 PA5(AD5/PCINT5) (io), 35 PA4(AD4/PCINT4) (io), 36 PA3(AD3/PCINT3) (io), 37 PA2(AD2/PCINT2) (io), 38 PA1(AD1/PCINT1) (io), 39 PA0(AD0/PCINT0) (io), 40 VCC (power)
text: ATmega162

## ATMEGA162V_QFN44
designator U?, comment ATMEGA162  (value not drawn)
MCU, AVR, 8-Bit, 16KB, 1KB RAM, 8MHz, No ADC; MANF_P#: ATMEGA162V-8MU; DESC: 512B EEPROM; MANF: ATMEL/MICROCHIP; PARAM2: 1.8~5.5V; PARAM: 16KB, 1KB RAM, 8MHz, -40~85°C; PRICE: 4.5$; VALUE: ATMEGA162
footprint QFN50_44T (QFN-44, 44ML, pitch:0.5mm, 7x7x1mm)
pins: 1 PB5(MOSI) (io), 2 PB6(MISO) (io), 3 PB7(SCK) (io), 4 ~{RESET} (in), 5 PD0(RXD0) (io), 6 VCC (power), 7 PD1(TXD0) (io), 8 PD2(INT0/XCK1) (io), 9 PD3(INT1/ICP3) (io), 10 PD4(TOSC1/XCK0/OC3A) (io), 11 PD5(OC1A/TOSC2) (io), 12 PD6(~{WR}) (io), 13 PD7(~{RD}) (io), 14 XTAL2, 15 XTAL1, 16 GND (power), 17 VCC (power), 18 PC0(A8/PCINT8) (io), 19 PC1(A9/PCINT9) (io), 20 PC2(A10/PCINT10) (io), 21 PC3(A11/PCINT11) (io), 22 PC4(TCK/A12/PCINT12) (io), 23 PC5(A13/TMS/PCINT13) (io), 24 PC6(A14/TDO/PCINT14) (io), 25 PC7(A15/TDI/PCINT15) (io), 26 PE2(OC1B) (io), 27 PE1(ALE) (io), 28 GND (power), 29 PE0(ICP1/INT2) (io), 30 PA7(AD7/PCINT7) (io), 31 PA6(AD6/PCINT6) (io), 32 PA5(AD5/PCINT5) (io), 33 PA4(AD4/PCINT4) (io), 34 PA3(AD3/PCINT3) (io), 35 PA2(AD2/PCINT2) (io), 36 PA1(AD1/PCINT1) (io), 37 PA0(AD0/PCINT0) (io), 38 VCC (power), 39 GND (power), 40 PB0(OC0/T0) (io), 41 PB1(OC2/T1) (io), 42 PB2(RXD1/AIN0) (io), 43 PB3(TXD1/AIN1) (io), 44 PB4(~{SS}/OC3B) (io), 45 EP (power)
text: ATmega162

## ATMEGA162V_QFP44
designator U?, comment ATMEGA162  (value not drawn)
MCU, AVR, 8-Bit, 16KB, 1KB RAM, 8MHz, No ADC; MANF_P#: ATMEGA162V-8AU; DESC: 512B EEPROM; MANF: ATMEL/MICROCHIP; PARAM2: 1.8~5.5V; PARAM: 16KB, 1KB RAM, 8MHz, -40~85°C; PRICE: 4.5$; VALUE: ATMEGA162
footprint QFG80_44 (TQFP44, PQFP44, A44 (Cypress), QFP44/MQFP44N (Dallas), VQ44,VQG44 (Xilinx), MS-026ACB, MS-022AB(JEDEC), 44A, 10.5X10.5, 0.8mm)
pins: 1 PB5(MOSI) (io), 2 PB6(MISO) (io), 3 PB7(SCK) (io), 4 ~{RESET} (in), 5 PD0(RXD0) (io), 6 VCC (power), 7 PD1(TXD0) (io), 8 PD2(INT0/XCK1) (io), 9 PD3(INT1/ICP3) (io), 10 PD4(TOSC1/XCK0/OC3A) (io), 11 PD5(OC1A/TOSC2) (io), 12 PD6(~{WR}) (io), 13 PD7(~{RD}) (io), 14 XTAL2, 15 XTAL1, 16 GND (power), 17 VCC (power), 18 PC0(A8/PCINT8) (io), 19 PC1(A9/PCINT9) (io), 20 PC2(A10/PCINT10) (io), 21 PC3(A11/PCINT11) (io), 22 PC4(TCK/A12/PCINT12) (io), 23 PC5(A13/TMS/PCINT13) (io), 24 PC6(A14/TDO/PCINT14) (io), 25 PC7(A15/TDI/PCINT15) (io), 26 PE2(OC1B) (io), 27 PE1(ALE) (io), 28 GND (power), 29 PE0(ICP1/INT2) (io), 30 PA7(AD7/PCINT7) (io), 31 PA6(AD6/PCINT6) (io), 32 PA5(AD5/PCINT5) (io), 33 PA4(AD4/PCINT4) (io), 34 PA3(AD3/PCINT3) (io), 35 PA2(AD2/PCINT2) (io), 36 PA1(AD1/PCINT1) (io), 37 PA0(AD0/PCINT0) (io), 38 VCC (power), 39 GND (power), 40 PB0(OC0/T0) (io), 41 PB1(OC2/T1) (io), 42 PB2(RXD1/AIN0) (io), 43 PB3(TXD1/AIN1) (io), 44 PB4(~{SS}/OC3B) (io)
text: ATmega162

## ATMEGA164A_DIP40
designator U?, comment ATMEGA164  (value not drawn)
MCU, AVR, 8-Bit, 16KB, 1KB RAM, 20MHz; MANF_P#: ATMEGA164A-PU; DESC: 512B EEPROM; MANF: ATMEL/MICROCHIP; PARAM2: 1.8~5.5V; PARAM: 16KB, 1KB RAM, 20MHz, -40~85°C; PRICE: 3.5$; VALUE: ATMEGA164
footprint DIP_40DW (DIP, pitch 2.54mm, 600mil Width)
pins: 1 PB0(PCINT8/XCK0/T0) (io), 2 PB1(PCINT9/CLKO/T1) (io), 3 PB2(PCINT10/INT2/AIN0) (io), 4 PB3(PCINT11/OC0A/AIN1) (io), 5 PB4(PCINT12/OC0B/~{SS}) (io), 6 PB5(PCINT13/ICP3/MOSI) (io), 7 PB6(PCINT14/OC3A/MISO) (io), 8 PB7(PCINT15/OC3B/SCK) (io), 9 ~{RESET} (in), 10 VCC (power), 11 GND (power), 12 XTAL2, 13 XTAL1, 14 PD0(PCINT24/RXD0/T3) (io), 15 PD1(PCINT25/TXD0) (io), 16 PD2(PCINT26/RXD1/INT0) (io), 17 PD3(PCINT27/TXD1/INT1) (io), 18 PD4(PCINT28/XCK1/OC1B) (io), 19 PD5(PCINT29/OC1A) (io), 20 PD6(PCINT30/OC2B/ICP) (io), 21 PD7(OC2A/PCINT31) (io), 22 PC0(SCL/PCINT16) (io), 23 PC1(SDA/PCINT17) (io), 24 PC2(TCK/PCINT18) (io), 25 PC3(TMS/PCINT19) (io), 26 PC4(TDO/PCINT20) (io), 27 PC5(TDI/PCINT21) (io), 28 PC6(TOSC1/PCINT22) (io), 29 PC7(TOSC2/PCINT23) (io), 30 AVCC (power), 31 GND (power), 32 AREF (power), 33 PA7(ADC7/PCINT7) (io), 34 PA6(ADC6/PCINT6) (io), 35 PA5(ADC5/PCINT5) (io), 36 PA4(ADC4/PCINT4) (io), 37 PA3(ADC3/PCINT3) (io), 38 PA2(ADC2/PCINT2) (io), 39 PA1(ADC1/PCINT1) (io), 40 PA0(ADC0/PCINT0) (io)
text: ATmega164

## ATMEGA164A_QFN44
designator U?, comment ATMEGA164  (value not drawn)
MCU, AVR, 8-Bit, 16KB, 1KB RAM, 20MHz; MANF_P#: ATMEGA164A-MU; DESC: 512B EEPROM; MANF: ATMEL/MICROCHIP; PARAM2: 1.8~5.5V; PARAM: 16KB, 1KB RAM, 20MHz, -40~85°C; PRICE: 3.6$; VALUE: ATMEGA164
footprint QFN50_44T (QFN-44, 44ML, pitch:0.5mm, 7x7x1mm)
pins: 1 PB5/PCINT13/ICP3/MOSI (io), 2 PB6/PCINT14/OC3A/MISO (io), 3 PB7/PCINT15/OC3B/SCK (io), 4 ~{RESET} (in), 5 VCC (power), 6 GND (power), 7 XTAL2, 8 XTAL1, 9 PD0/PCINT24/RXD0/T3 (io), 10 PD1/PCINT25/TXD0 (io), 11 PD2/PCINT26/RXD1/INT0 (io), 12 PD3/PCINT27/TXD1/INT1 (io), 13 PD4/PCINT28/XCK1/OC1B (io), 14 PD5/PCINT29/OC1A (io), 15 PD6/PCINT30/OC2B/ICP (io), 16 PD7/OC2A/PCINT31 (io), 17 VCC (power), 18 GND (power), 19 PC0/SCL/PCINT16 (io), 20 PC1/SDA/PCINT17 (io), 21 PC2/TCK/PCINT18 (io), 22 PC3/TMS/PCINT19 (io), 23 PC4/TDO/PCINT20 (io), 24 PC5/TDI/PCINT21 (io), 25 PC6/TOSC1/PCINT22 (io), 26 PC7/TOSC2/PCINT23 (io), 27 AVCC (power), 28 GND (power), 29 AREF (power), 30 PA7/ADC7/PCINT7 (io), 31 PA6/ADC6/PCINT6 (io), 32 PA5/ADC5/PCINT5 (io), 33 PA4/ADC4/PCINT4 (io), 34 PA3/ADC3/PCINT3 (io), 35 PA2/ADC2/PCINT2 (io), 36 PA1/ADC1/PCINT1 (io), 37 PA0/ADC0/PCINT0 (io), 38 VCC (power), 39 GND (power), 40 PB0/PCINT8/XCK0/T0 (io), 41 PB1/PCINT9/CLKO/T1 (io), 42 PB2/PCINT10/INT2/AIN0 (io), 43 PB3/PCINT11/OC0A/AIN1 (io), 44 PB4/PCINT12/OC0B/~{SS} (io), 45 EP (power)
text: ATmega164

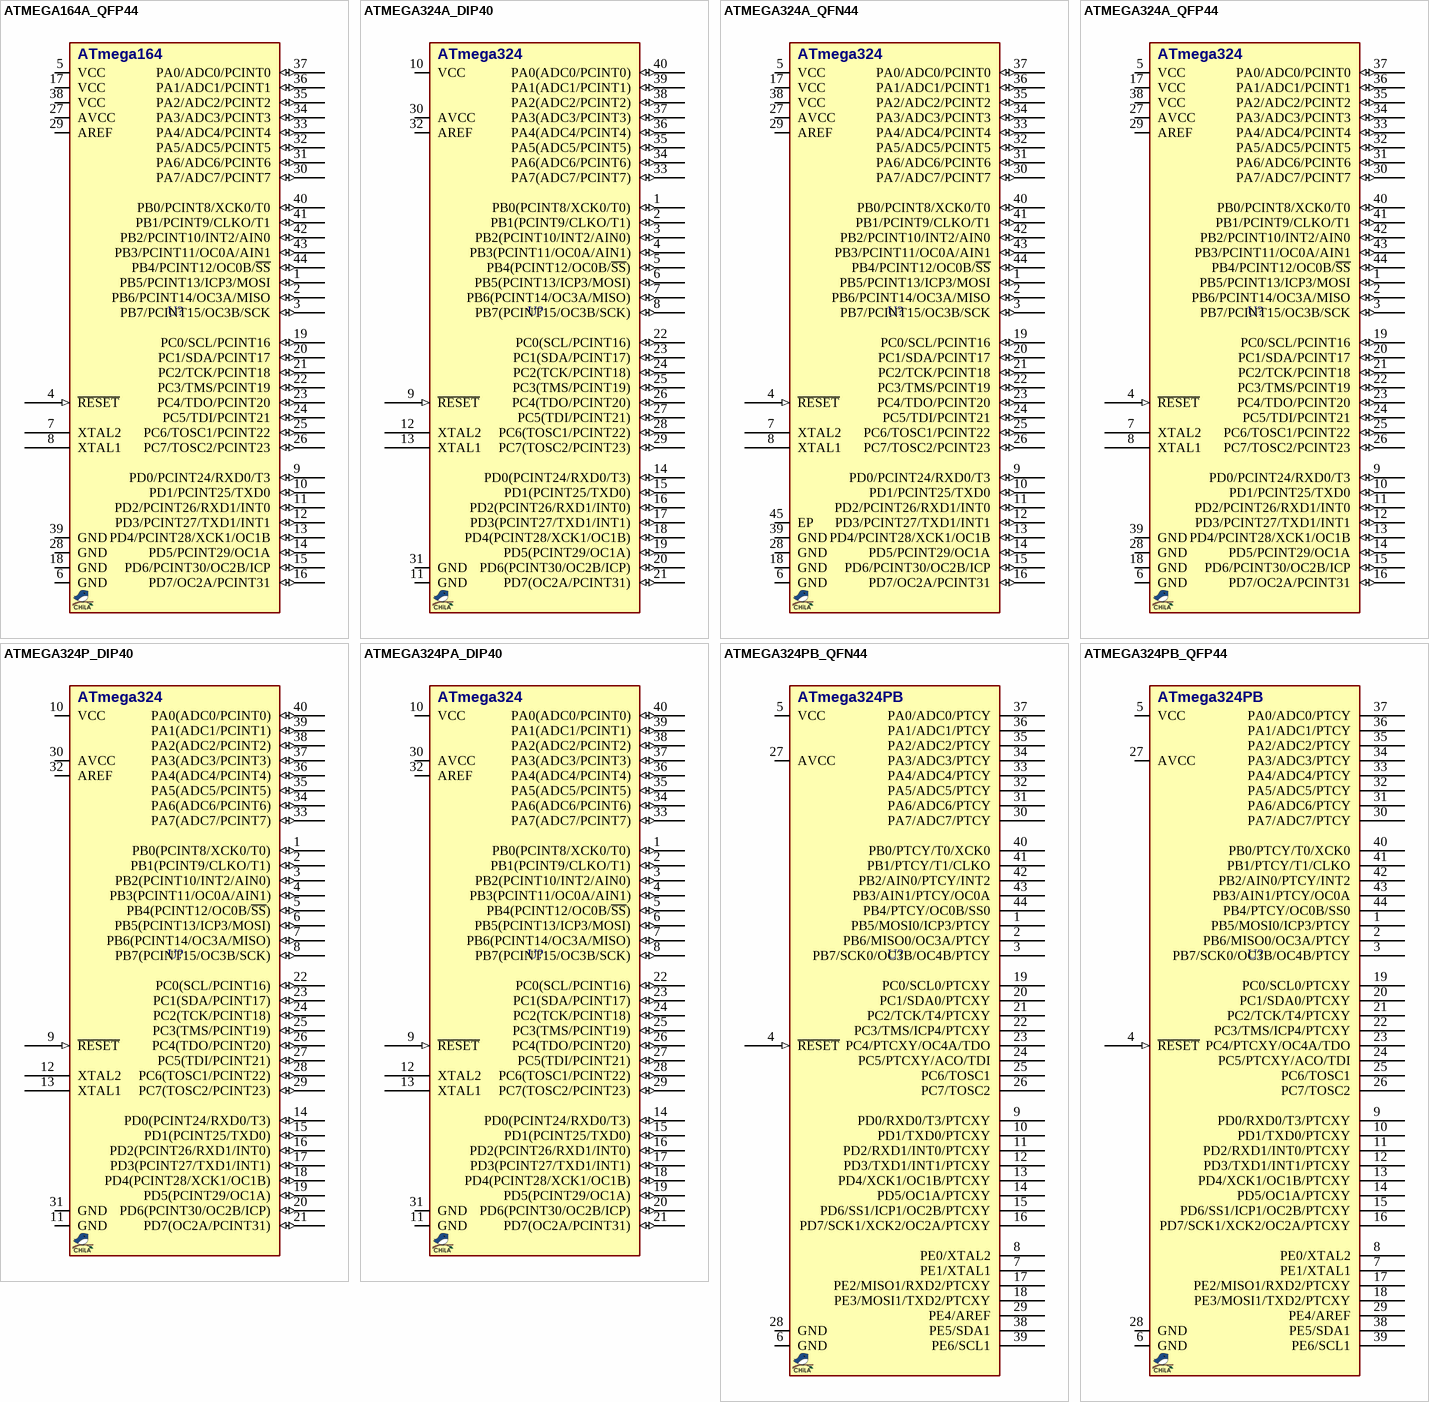
[diagram p3: symbols ATMEGA164A_QFP44 to ATMEGA324PB_QFP44]

## ATMEGA164A_QFP44
designator U?, comment ATMEGA164  (value not drawn)
MCU, AVR, 8-Bit, 16KB, 1KB RAM, 20MHz; MANF_P#: ATMEGA16A-AU; DESC: 512B EEPROM; MANF: ATMEL/MICROCHIP; PARAM2: 1.8~5.5V; PARAM: 16KB, 1KB RAM, 20MHz, -40~85°C; PRICE: 3.6$; VALUE: ATMEGA164
footprint QFG80_44 (TQFP44, PQFP44, A44 (Cypress), QFP44/MQFP44N (Dallas), VQ44,VQG44 (Xilinx), MS-026ACB, MS-022AB(JEDEC), 44A, 10.5X10.5, 0.8mm)
pins: 1 PB5/PCINT13/ICP3/MOSI (io), 2 PB6/PCINT14/OC3A/MISO (io), 3 PB7/PCINT15/OC3B/SCK (io), 4 ~{RESET} (in), 5 VCC (power), 6 GND (power), 7 XTAL2, 8 XTAL1, 9 PD0/PCINT24/RXD0/T3 (io), 10 PD1/PCINT25/TXD0 (io), 11 PD2/PCINT26/RXD1/INT0 (io), 12 PD3/PCINT27/TXD1/INT1 (io), 13 PD4/PCINT28/XCK1/OC1B (io), 14 PD5/PCINT29/OC1A (io), 15 PD6/PCINT30/OC2B/ICP (io), 16 PD7/OC2A/PCINT31 (io), 17 VCC (power), 18 GND (power), 19 PC0/SCL/PCINT16 (io), 20 PC1/SDA/PCINT17 (io), 21 PC2/TCK/PCINT18 (io), 22 PC3/TMS/PCINT19 (io), 23 PC4/TDO/PCINT20 (io), 24 PC5/TDI/PCINT21 (io), 25 PC6/TOSC1/PCINT22 (io), 26 PC7/TOSC2/PCINT23 (io), 27 AVCC (power), 28 GND (power), 29 AREF (power), 30 PA7/ADC7/PCINT7 (io), 31 PA6/ADC6/PCINT6 (io), 32 PA5/ADC5/PCINT5 (io), 33 PA4/ADC4/PCINT4 (io), 34 PA3/ADC3/PCINT3 (io), 35 PA2/ADC2/PCINT2 (io), 36 PA1/ADC1/PCINT1 (io), 37 PA0/ADC0/PCINT0 (io), 38 VCC (power), 39 GND (power), 40 PB0/PCINT8/XCK0/T0 (io), 41 PB1/PCINT9/CLKO/T1 (io), 42 PB2/PCINT10/INT2/AIN0 (io), 43 PB3/PCINT11/OC0A/AIN1 (io), 44 PB4/PCINT12/OC0B/~{SS} (io)
text: ATmega164

## ATMEGA324A_DIP40
designator U?, comment ATMEGA324  (value not drawn)
MCU, AVR, 8-Bit, 32KB, 2KB RAM, 20MHz; MANF_P#: ATMEGA324A-PU; DESC: 1KB EEPROM; MANF: ATMEL/MICROCHIP; PARAM2: 1.8~5.5V; PARAM: 32KB, 2KB RAM, 20MHz, -40~85°C; PRICE: 3.5$; VALUE: ATMEGA324
footprint DIP_40DW (DIP, pitch 2.54mm, 600mil Width)
pins: 1 PB0(PCINT8/XCK0/T0) (io), 2 PB1(PCINT9/CLKO/T1) (io), 3 PB2(PCINT10/INT2/AIN0) (io), 4 PB3(PCINT11/OC0A/AIN1) (io), 5 PB4(PCINT12/OC0B/~{SS}) (io), 6 PB5(PCINT13/ICP3/MOSI) (io), 7 PB6(PCINT14/OC3A/MISO) (io), 8 PB7(PCINT15/OC3B/SCK) (io), 9 ~{RESET} (in), 10 VCC (power), 11 GND (power), 12 XTAL2, 13 XTAL1, 14 PD0(PCINT24/RXD0/T3) (io), 15 PD1(PCINT25/TXD0) (io), 16 PD2(PCINT26/RXD1/INT0) (io), 17 PD3(PCINT27/TXD1/INT1) (io), 18 PD4(PCINT28/XCK1/OC1B) (io), 19 PD5(PCINT29/OC1A) (io), 20 PD6(PCINT30/OC2B/ICP) (io), 21 PD7(OC2A/PCINT31) (io), 22 PC0(SCL/PCINT16) (io), 23 PC1(SDA/PCINT17) (io), 24 PC2(TCK/PCINT18) (io), 25 PC3(TMS/PCINT19) (io), 26 PC4(TDO/PCINT20) (io), 27 PC5(TDI/PCINT21) (io), 28 PC6(TOSC1/PCINT22) (io), 29 PC7(TOSC2/PCINT23) (io), 30 AVCC (power), 31 GND (power), 32 AREF (power), 33 PA7(ADC7/PCINT7) (io), 34 PA6(ADC6/PCINT6) (io), 35 PA5(ADC5/PCINT5) (io), 36 PA4(ADC4/PCINT4) (io), 37 PA3(ADC3/PCINT3) (io), 38 PA2(ADC2/PCINT2) (io), 39 PA1(ADC1/PCINT1) (io), 40 PA0(ADC0/PCINT0) (io)
text: ATmega324

## ATMEGA324A_QFN44
designator U?, comment ATMEGA324  (value not drawn)
MCU, AVR, 8-Bit, 32KB, 2KB RAM, 20MHz; MANF_P#: ATMEGA324A-MU; DESC: 1KB EEPROM; MANF: ATMEL/MICROCHIP; PARAM2: 1.8~5.5V; PARAM: 32KB, 2KB RAM, 20MHz, -40~85°C; PRICE: 3.6$; VALUE: ATMEGA324
footprint QFN50_44T (QFN-44, 44ML, pitch:0.5mm, 7x7x1mm)
pins: 1 PB5/PCINT13/ICP3/MOSI (io), 2 PB6/PCINT14/OC3A/MISO (io), 3 PB7/PCINT15/OC3B/SCK (io), 4 ~{RESET} (in), 5 VCC (power), 6 GND (power), 7 XTAL2, 8 XTAL1, 9 PD0/PCINT24/RXD0/T3 (io), 10 PD1/PCINT25/TXD0 (io), 11 PD2/PCINT26/RXD1/INT0 (io), 12 PD3/PCINT27/TXD1/INT1 (io), 13 PD4/PCINT28/XCK1/OC1B (io), 14 PD5/PCINT29/OC1A (io), 15 PD6/PCINT30/OC2B/ICP (io), 16 PD7/OC2A/PCINT31 (io), 17 VCC (power), 18 GND (power), 19 PC0/SCL/PCINT16 (io), 20 PC1/SDA/PCINT17 (io), 21 PC2/TCK/PCINT18 (io), 22 PC3/TMS/PCINT19 (io), 23 PC4/TDO/PCINT20 (io), 24 PC5/TDI/PCINT21 (io), 25 PC6/TOSC1/PCINT22 (io), 26 PC7/TOSC2/PCINT23 (io), 27 AVCC (power), 28 GND (power), 29 AREF (power), 30 PA7/ADC7/PCINT7 (io), 31 PA6/ADC6/PCINT6 (io), 32 PA5/ADC5/PCINT5 (io), 33 PA4/ADC4/PCINT4 (io), 34 PA3/ADC3/PCINT3 (io), 35 PA2/ADC2/PCINT2 (io), 36 PA1/ADC1/PCINT1 (io), 37 PA0/ADC0/PCINT0 (io), 38 VCC (power), 39 GND (power), 40 PB0/PCINT8/XCK0/T0 (io), 41 PB1/PCINT9/CLKO/T1 (io), 42 PB2/PCINT10/INT2/AIN0 (io), 43 PB3/PCINT11/OC0A/AIN1 (io), 44 PB4/PCINT12/OC0B/~{SS} (io), 45 EP (power)
text: ATmega324

## ATMEGA324A_QFP44
designator U?, comment ATMEGA324  (value not drawn)
MCU, AVR, 8-Bit, 32KB, 2KB RAM, 20MHz; MANF_P#: ATMEGA324A-AU; DESC: 1KB EEPROM; MANF: ATMEL/MICROCHIP; PARAM2: 1.8~5.5V; PARAM: 32KB, 2KB RAM, 20MHz, -40~85°C; PRICE: 3.6$; VALUE: ATMEGA324
footprint QFG80_44 (TQFP44, PQFP44, A44 (Cypress), QFP44/MQFP44N (Dallas), VQ44,VQG44 (Xilinx), MS-026ACB, MS-022AB(JEDEC), 44A, 10.5X10.5, 0.8mm)
pins: 1 PB5/PCINT13/ICP3/MOSI (io), 2 PB6/PCINT14/OC3A/MISO (io), 3 PB7/PCINT15/OC3B/SCK (io), 4 ~{RESET} (in), 5 VCC (power), 6 GND (power), 7 XTAL2, 8 XTAL1, 9 PD0/PCINT24/RXD0/T3 (io), 10 PD1/PCINT25/TXD0 (io), 11 PD2/PCINT26/RXD1/INT0 (io), 12 PD3/PCINT27/TXD1/INT1 (io), 13 PD4/PCINT28/XCK1/OC1B (io), 14 PD5/PCINT29/OC1A (io), 15 PD6/PCINT30/OC2B/ICP (io), 16 PD7/OC2A/PCINT31 (io), 17 VCC (power), 18 GND (power), 19 PC0/SCL/PCINT16 (io), 20 PC1/SDA/PCINT17 (io), 21 PC2/TCK/PCINT18 (io), 22 PC3/TMS/PCINT19 (io), 23 PC4/TDO/PCINT20 (io), 24 PC5/TDI/PCINT21 (io), 25 PC6/TOSC1/PCINT22 (io), 26 PC7/TOSC2/PCINT23 (io), 27 AVCC (power), 28 GND (power), 29 AREF (power), 30 PA7/ADC7/PCINT7 (io), 31 PA6/ADC6/PCINT6 (io), 32 PA5/ADC5/PCINT5 (io), 33 PA4/ADC4/PCINT4 (io), 34 PA3/ADC3/PCINT3 (io), 35 PA2/ADC2/PCINT2 (io), 36 PA1/ADC1/PCINT1 (io), 37 PA0/ADC0/PCINT0 (io), 38 VCC (power), 39 GND (power), 40 PB0/PCINT8/XCK0/T0 (io), 41 PB1/PCINT9/CLKO/T1 (io), 42 PB2/PCINT10/INT2/AIN0 (io), 43 PB3/PCINT11/OC0A/AIN1 (io), 44 PB4/PCINT12/OC0B/~{SS} (io)
text: ATmega324

## ATMEGA324P_DIP40
designator U?, comment ATMEGA324  (value not drawn)
MCU, AVR, 8-Bit, 32KB, 2KB RAM, 20MHz; MANF_P#: ATMEGA324P-20PU; DESC: 1KB EEPROM; MANF: ATMEL/MICROCHIP; PARAM2: 2.7~5.5V; PARAM: 32KB, 2KB RAM, 20MHz, -40~85°C; PRICE: 4.8$; VALUE: ATMEGA324
footprint DIP_40DW (DIP, pitch 2.54mm, 600mil Width)
pins: 1 PB0(PCINT8/XCK0/T0) (io), 2 PB1(PCINT9/CLKO/T1) (io), 3 PB2(PCINT10/INT2/AIN0) (io), 4 PB3(PCINT11/OC0A/AIN1) (io), 5 PB4(PCINT12/OC0B/~{SS}) (io), 6 PB5(PCINT13/ICP3/MOSI) (io), 7 PB6(PCINT14/OC3A/MISO) (io), 8 PB7(PCINT15/OC3B/SCK) (io), 9 ~{RESET} (in), 10 VCC (power), 11 GND (power), 12 XTAL2, 13 XTAL1, 14 PD0(PCINT24/RXD0/T3) (io), 15 PD1(PCINT25/TXD0) (io), 16 PD2(PCINT26/RXD1/INT0) (io), 17 PD3(PCINT27/TXD1/INT1) (io), 18 PD4(PCINT28/XCK1/OC1B) (io), 19 PD5(PCINT29/OC1A) (io), 20 PD6(PCINT30/OC2B/ICP) (io), 21 PD7(OC2A/PCINT31) (io), 22 PC0(SCL/PCINT16) (io), 23 PC1(SDA/PCINT17) (io), 24 PC2(TCK/PCINT18) (io), 25 PC3(TMS/PCINT19) (io), 26 PC4(TDO/PCINT20) (io), 27 PC5(TDI/PCINT21) (io), 28 PC6(TOSC1/PCINT22) (io), 29 PC7(TOSC2/PCINT23) (io), 30 AVCC (power), 31 GND (power), 32 AREF (power), 33 PA7(ADC7/PCINT7) (io), 34 PA6(ADC6/PCINT6) (io), 35 PA5(ADC5/PCINT5) (io), 36 PA4(ADC4/PCINT4) (io), 37 PA3(ADC3/PCINT3) (io), 38 PA2(ADC2/PCINT2) (io), 39 PA1(ADC1/PCINT1) (io), 40 PA0(ADC0/PCINT0) (io)
text: ATmega324

## ATMEGA324PA_DIP40
designator U?, comment ATMEGA324  (value not drawn)
MCU, AVR, 8-Bit, 32KB, 2KB RAM, 20MHz; MANF_P#: ATMEGA324PA-PU; DESC: 1KB EEPROM; MANF: ATMEL/MICROCHIP; PARAM2: 1.8~5.5V; PARAM: 32KB, 2KB RAM, 20MHz, -40~85°C; PRICE: 4$; VALUE: ATMEGA324
footprint DIP_40DW (DIP, pitch 2.54mm, 600mil Width)
pins: 1 PB0(PCINT8/XCK0/T0) (io), 2 PB1(PCINT9/CLKO/T1) (io), 3 PB2(PCINT10/INT2/AIN0) (io), 4 PB3(PCINT11/OC0A/AIN1) (io), 5 PB4(PCINT12/OC0B/~{SS}) (io), 6 PB5(PCINT13/ICP3/MOSI) (io), 7 PB6(PCINT14/OC3A/MISO) (io), 8 PB7(PCINT15/OC3B/SCK) (io), 9 ~{RESET} (in), 10 VCC (power), 11 GND (power), 12 XTAL2, 13 XTAL1, 14 PD0(PCINT24/RXD0/T3) (io), 15 PD1(PCINT25/TXD0) (io), 16 PD2(PCINT26/RXD1/INT0) (io), 17 PD3(PCINT27/TXD1/INT1) (io), 18 PD4(PCINT28/XCK1/OC1B) (io), 19 PD5(PCINT29/OC1A) (io), 20 PD6(PCINT30/OC2B/ICP) (io), 21 PD7(OC2A/PCINT31) (io), 22 PC0(SCL/PCINT16) (io), 23 PC1(SDA/PCINT17) (io), 24 PC2(TCK/PCINT18) (io), 25 PC3(TMS/PCINT19) (io), 26 PC4(TDO/PCINT20) (io), 27 PC5(TDI/PCINT21) (io), 28 PC6(TOSC1/PCINT22) (io), 29 PC7(TOSC2/PCINT23) (io), 30 AVCC (power), 31 GND (power), 32 AREF (power), 33 PA7(ADC7/PCINT7) (io), 34 PA6(ADC6/PCINT6) (io), 35 PA5(ADC5/PCINT5) (io), 36 PA4(ADC4/PCINT4) (io), 37 PA3(ADC3/PCINT3) (io), 38 PA2(ADC2/PCINT2) (io), 39 PA1(ADC1/PCINT1) (io), 40 PA0(ADC0/PCINT0) (io)
text: ATmega324

## ATMEGA324PB_QFN44
designator U?, comment ATMEGA324PB  (value not drawn)
MCU, AVR, 8-Bit, 32KB, 2KB RAM, 20MHz; MANF_P#: ATMEGA324PB-MU; DESC: 1KB EEPROM; MANF: ATMEL/MICROCHIP; PARAM2: 1.8~5.5V; PARAM: 32KB, 2KB RAM, 20MHz, -40~85°C; PRICE: 3$; VALUE: ATMEGA324PB
footprint QFN50_44T (QFN-44, 44ML, pitch:0.5mm, 7x7x1mm)
pins: 1 PB5/MOSI0/ICP3/PTCY, 2 PB6/MISO0/OC3A/PTCY, 3 PB7/SCK0/OC3B/OC4B/PTCY, 4 ~{RESET} (in), 5 VCC, 6 GND (power), 7 PE1/XTAL1, 8 PE0/XTAL2, 9 PD0/RXD0/T3/PTCXY, 10 PD1/TXD0/PTCXY, 11 PD2/RXD1/INT0/PTCXY, 12 PD3/TXD1/INT1/PTCXY, 13 PD4/XCK1/OC1B/PTCXY, 14 PD5/OC1A/PTCXY, 15 PD6/SS1/ICP1/OC2B/PTCXY, 16 PD7/SCK1/XCK2/OC2A/PTCXY, 17 PE2/MISO1/RXD2/PTCXY, 18 PE3/MOSI1/TXD2/PTCXY, 19 PC0/SCL0/PTCXY, 20 PC1/SDA0/PTCXY, 21 PC2/TCK/T4/PTCXY, 22 PC3/TMS/ICP4/PTCXY, 23 PC4/PTCXY/OC4A/TDO, 24 PC5/PTCXY/ACO/TDI, 25 PC6/TOSC1, 26 PC7/TOSC2, 27 AVCC (power), 28 GND (power), 29 PE4/AREF, 30 PA7/ADC7/PTCY, 31 PA6/ADC6/PTCY, 32 PA5/ADC5/PTCY, 33 PA4/ADC4/PTCY, 34 PA3/ADC3/PTCY, 35 PA2/ADC2/PTCY, 36 PA1/ADC1/PTCY, 37 PA0/ADC0/PTCY, 38 PE5/SDA1, 39 PE6/SCL1, 40 PB0/PTCY/T0/XCK0, 41 PB1/PTCY/T1/CLKO, 42 PB2/AIN0/PTCY/INT2, 43 PB3/AIN1/PTCY/OC0A, 44 PB4/PTCY/OC0B/SS0
text: ATmega324PB

## ATMEGA324PB_QFP44
designator U?, comment ATMEGA324PB  (value not drawn)
MCU, AVR, 8-Bit, 32KB, 2KB RAM, 20MHz; MANF_P#: ATMEGA324PB-AU; DESC: 1KB EEPROM; MANF: ATMEL/MICROCHIP; PARAM2: 1.8~5.5V; PARAM: 32KB, 2KB RAM, 20MHz, -40~85°C; PRICE: 2$; VALUE: ATMEGA324PB
footprint QFG80_44 (TQFP44, PQFP44, A44 (Cypress), QFP44/MQFP44N (Dallas), VQ44,VQG44 (Xilinx), MS-026ACB, MS-022AB(JEDEC), 44A, 10.5X10.5, 0.8mm)
pins: 1 PB5/MOSI0/ICP3/PTCY, 2 PB6/MISO0/OC3A/PTCY, 3 PB7/SCK0/OC3B/OC4B/PTCY, 4 ~{RESET} (in), 5 VCC, 6 GND (power), 7 PE1/XTAL1, 8 PE0/XTAL2, 9 PD0/RXD0/T3/PTCXY, 10 PD1/TXD0/PTCXY, 11 PD2/RXD1/INT0/PTCXY, 12 PD3/TXD1/INT1/PTCXY, 13 PD4/XCK1/OC1B/PTCXY, 14 PD5/OC1A/PTCXY, 15 PD6/SS1/ICP1/OC2B/PTCXY, 16 PD7/SCK1/XCK2/OC2A/PTCXY, 17 PE2/MISO1/RXD2/PTCXY, 18 PE3/MOSI1/TXD2/PTCXY, 19 PC0/SCL0/PTCXY, 20 PC1/SDA0/PTCXY, 21 PC2/TCK/T4/PTCXY, 22 PC3/TMS/ICP4/PTCXY, 23 PC4/PTCXY/OC4A/TDO, 24 PC5/PTCXY/ACO/TDI, 25 PC6/TOSC1, 26 PC7/TOSC2, 27 AVCC (power), 28 GND (power), 29 PE4/AREF, 30 PA7/ADC7/PTCY, 31 PA6/ADC6/PTCY, 32 PA5/ADC5/PTCY, 33 PA4/ADC4/PTCY, 34 PA3/ADC3/PTCY, 35 PA2/ADC2/PTCY, 36 PA1/ADC1/PTCY, 37 PA0/ADC0/PTCY, 38 PE5/SDA1, 39 PE6/SCL1, 40 PB0/PTCY/T0/XCK0, 41 PB1/PTCY/T1/CLKO, 42 PB2/AIN0/PTCY/INT2, 43 PB3/AIN1/PTCY/OC0A, 44 PB4/PTCY/OC0B/SS0
text: ATmega324PB

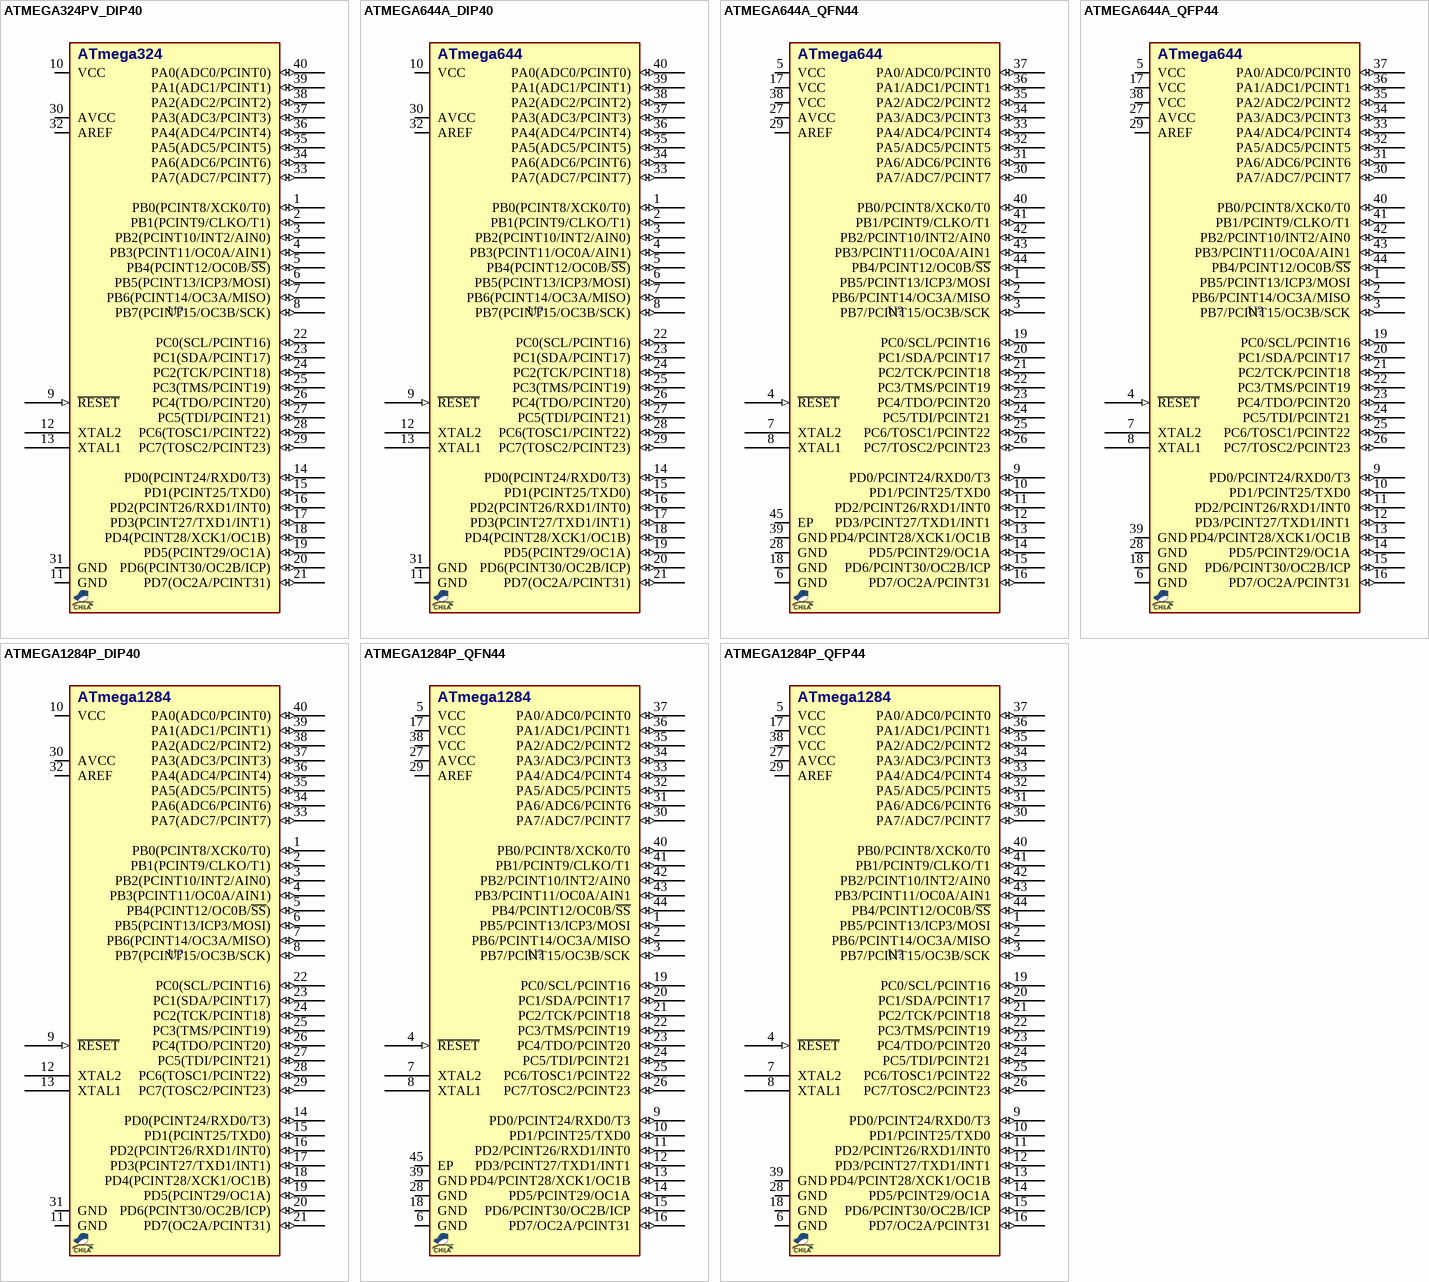
[diagram p4: symbols ATMEGA324PV_DIP40 to ATMEGA1284P_QFP44]

## ATMEGA324PV_DIP40
designator U?, comment ATMEGA324  (value not drawn)
MCU, AVR, 8-Bit, 32KB, 2KB RAM, 10MHz; MANF_P#: ATMEGA324PV-10PU; DESC: 1KB EEPROM; MANF: ATMEL/MICROCHIP; PARAM2: 1.8~5.5V; PARAM: 32KB, 2KB RAM, 10MHz, -40~85°C; PRICE: 4.8$; VALUE: ATMEGA324
footprint DIP_40DW (DIP, pitch 2.54mm, 600mil Width)
pins: 1 PB0(PCINT8/XCK0/T0) (io), 2 PB1(PCINT9/CLKO/T1) (io), 3 PB2(PCINT10/INT2/AIN0) (io), 4 PB3(PCINT11/OC0A/AIN1) (io), 5 PB4(PCINT12/OC0B/~{SS}) (io), 6 PB5(PCINT13/ICP3/MOSI) (io), 7 PB6(PCINT14/OC3A/MISO) (io), 8 PB7(PCINT15/OC3B/SCK) (io), 9 ~{RESET} (in), 10 VCC (power), 11 GND (power), 12 XTAL2, 13 XTAL1, 14 PD0(PCINT24/RXD0/T3) (io), 15 PD1(PCINT25/TXD0) (io), 16 PD2(PCINT26/RXD1/INT0) (io), 17 PD3(PCINT27/TXD1/INT1) (io), 18 PD4(PCINT28/XCK1/OC1B) (io), 19 PD5(PCINT29/OC1A) (io), 20 PD6(PCINT30/OC2B/ICP) (io), 21 PD7(OC2A/PCINT31) (io), 22 PC0(SCL/PCINT16) (io), 23 PC1(SDA/PCINT17) (io), 24 PC2(TCK/PCINT18) (io), 25 PC3(TMS/PCINT19) (io), 26 PC4(TDO/PCINT20) (io), 27 PC5(TDI/PCINT21) (io), 28 PC6(TOSC1/PCINT22) (io), 29 PC7(TOSC2/PCINT23) (io), 30 AVCC (power), 31 GND (power), 32 AREF (power), 33 PA7(ADC7/PCINT7) (io), 34 PA6(ADC6/PCINT6) (io), 35 PA5(ADC5/PCINT5) (io), 36 PA4(ADC4/PCINT4) (io), 37 PA3(ADC3/PCINT3) (io), 38 PA2(ADC2/PCINT2) (io), 39 PA1(ADC1/PCINT1) (io), 40 PA0(ADC0/PCINT0) (io)
text: ATmega324

## ATMEGA644A_DIP40
designator U?, comment ATMEGA644  (value not drawn)
MCU, AVR, 8-Bit, 64KB, 4KB RAM, 20MHz; MANF_P#: ATMEGA644A-PU; DESC: 2KB EEPROM; MANF: ATMEL/MICROCHIP; PARAM2: 1.8~5.5V; PARAM: 64KB, 4KB RAM, 20MHz, -40~85°C; PRICE: 4.5$; VALUE: ATMEGA644
footprint DIP_40DW (DIP, pitch 2.54mm, 600mil Width)
pins: 1 PB0(PCINT8/XCK0/T0) (io), 2 PB1(PCINT9/CLKO/T1) (io), 3 PB2(PCINT10/INT2/AIN0) (io), 4 PB3(PCINT11/OC0A/AIN1) (io), 5 PB4(PCINT12/OC0B/~{SS}) (io), 6 PB5(PCINT13/ICP3/MOSI) (io), 7 PB6(PCINT14/OC3A/MISO) (io), 8 PB7(PCINT15/OC3B/SCK) (io), 9 ~{RESET} (in), 10 VCC (power), 11 GND (power), 12 XTAL2, 13 XTAL1, 14 PD0(PCINT24/RXD0/T3) (io), 15 PD1(PCINT25/TXD0) (io), 16 PD2(PCINT26/RXD1/INT0) (io), 17 PD3(PCINT27/TXD1/INT1) (io), 18 PD4(PCINT28/XCK1/OC1B) (io), 19 PD5(PCINT29/OC1A) (io), 20 PD6(PCINT30/OC2B/ICP) (io), 21 PD7(OC2A/PCINT31) (io), 22 PC0(SCL/PCINT16) (io), 23 PC1(SDA/PCINT17) (io), 24 PC2(TCK/PCINT18) (io), 25 PC3(TMS/PCINT19) (io), 26 PC4(TDO/PCINT20) (io), 27 PC5(TDI/PCINT21) (io), 28 PC6(TOSC1/PCINT22) (io), 29 PC7(TOSC2/PCINT23) (io), 30 AVCC (power), 31 GND (power), 32 AREF (power), 33 PA7(ADC7/PCINT7) (io), 34 PA6(ADC6/PCINT6) (io), 35 PA5(ADC5/PCINT5) (io), 36 PA4(ADC4/PCINT4) (io), 37 PA3(ADC3/PCINT3) (io), 38 PA2(ADC2/PCINT2) (io), 39 PA1(ADC1/PCINT1) (io), 40 PA0(ADC0/PCINT0) (io)
text: ATmega644

## ATMEGA644A_QFN44
designator U?, comment ATMEGA644  (value not drawn)
MCU, AVR, 8-Bit, 64KB, 4KB RAM, 20MHz; MANF_P#: ATMEGA644A-MU; DESC: 2KB EEPROM; MANF: ATMEL/MICROCHIP; PARAM2: 1.8~5.5V; PARAM: 64KB, 4KB RAM, 20MHz, -40~85°C; PRICE: 4.6$; VALUE: ATMEGA644
footprint QFN50_44T (QFN-44, 44ML, pitch:0.5mm, 7x7x1mm)
pins: 1 PB5/PCINT13/ICP3/MOSI (io), 2 PB6/PCINT14/OC3A/MISO (io), 3 PB7/PCINT15/OC3B/SCK (io), 4 ~{RESET} (in), 5 VCC (power), 6 GND (power), 7 XTAL2, 8 XTAL1, 9 PD0/PCINT24/RXD0/T3 (io), 10 PD1/PCINT25/TXD0 (io), 11 PD2/PCINT26/RXD1/INT0 (io), 12 PD3/PCINT27/TXD1/INT1 (io), 13 PD4/PCINT28/XCK1/OC1B (io), 14 PD5/PCINT29/OC1A (io), 15 PD6/PCINT30/OC2B/ICP (io), 16 PD7/OC2A/PCINT31 (io), 17 VCC (power), 18 GND (power), 19 PC0/SCL/PCINT16 (io), 20 PC1/SDA/PCINT17 (io), 21 PC2/TCK/PCINT18 (io), 22 PC3/TMS/PCINT19 (io), 23 PC4/TDO/PCINT20 (io), 24 PC5/TDI/PCINT21 (io), 25 PC6/TOSC1/PCINT22 (io), 26 PC7/TOSC2/PCINT23 (io), 27 AVCC (power), 28 GND (power), 29 AREF (power), 30 PA7/ADC7/PCINT7 (io), 31 PA6/ADC6/PCINT6 (io), 32 PA5/ADC5/PCINT5 (io), 33 PA4/ADC4/PCINT4 (io), 34 PA3/ADC3/PCINT3 (io), 35 PA2/ADC2/PCINT2 (io), 36 PA1/ADC1/PCINT1 (io), 37 PA0/ADC0/PCINT0 (io), 38 VCC (power), 39 GND (power), 40 PB0/PCINT8/XCK0/T0 (io), 41 PB1/PCINT9/CLKO/T1 (io), 42 PB2/PCINT10/INT2/AIN0 (io), 43 PB3/PCINT11/OC0A/AIN1 (io), 44 PB4/PCINT12/OC0B/~{SS} (io), 45 EP (power)
text: ATmega644

## ATMEGA644A_QFP44
designator U?, comment ATMEGA644  (value not drawn)
MCU, AVR, 8-Bit, 64KB, 4KB RAM, 20MHz; MANF_P#: ATMEGA644A-AU; DESC: 2KB EEPROM; MANF: ATMEL/MICROCHIP; PARAM2: 1.8~5.5V; PARAM: 64KB, 4KB RAM, 20MHz, -40~85°C; PRICE: 4.6$; VALUE: ATMEGA644
footprint QFG80_44 (TQFP44, PQFP44, A44 (Cypress), QFP44/MQFP44N (Dallas), VQ44,VQG44 (Xilinx), MS-026ACB, MS-022AB(JEDEC), 44A, 10.5X10.5, 0.8mm)
pins: 1 PB5/PCINT13/ICP3/MOSI (io), 2 PB6/PCINT14/OC3A/MISO (io), 3 PB7/PCINT15/OC3B/SCK (io), 4 ~{RESET} (in), 5 VCC (power), 6 GND (power), 7 XTAL2, 8 XTAL1, 9 PD0/PCINT24/RXD0/T3 (io), 10 PD1/PCINT25/TXD0 (io), 11 PD2/PCINT26/RXD1/INT0 (io), 12 PD3/PCINT27/TXD1/INT1 (io), 13 PD4/PCINT28/XCK1/OC1B (io), 14 PD5/PCINT29/OC1A (io), 15 PD6/PCINT30/OC2B/ICP (io), 16 PD7/OC2A/PCINT31 (io), 17 VCC (power), 18 GND (power), 19 PC0/SCL/PCINT16 (io), 20 PC1/SDA/PCINT17 (io), 21 PC2/TCK/PCINT18 (io), 22 PC3/TMS/PCINT19 (io), 23 PC4/TDO/PCINT20 (io), 24 PC5/TDI/PCINT21 (io), 25 PC6/TOSC1/PCINT22 (io), 26 PC7/TOSC2/PCINT23 (io), 27 AVCC (power), 28 GND (power), 29 AREF (power), 30 PA7/ADC7/PCINT7 (io), 31 PA6/ADC6/PCINT6 (io), 32 PA5/ADC5/PCINT5 (io), 33 PA4/ADC4/PCINT4 (io), 34 PA3/ADC3/PCINT3 (io), 35 PA2/ADC2/PCINT2 (io), 36 PA1/ADC1/PCINT1 (io), 37 PA0/ADC0/PCINT0 (io), 38 VCC (power), 39 GND (power), 40 PB0/PCINT8/XCK0/T0 (io), 41 PB1/PCINT9/CLKO/T1 (io), 42 PB2/PCINT10/INT2/AIN0 (io), 43 PB3/PCINT11/OC0A/AIN1 (io), 44 PB4/PCINT12/OC0B/~{SS} (io)
text: ATmega644

## ATMEGA1284P_DIP40
designator U?, comment ATMEGA1284  (value not drawn)
MCU, AVR, 8-Bit, 128KB, 16KB RAM, 20MHz; MANF_P#: ATMEGA1284P-PU; DESC: 4KB EEPROM; MANF: ATMEL/MICROCHIP; PARAM2: 1.8~5.5V; PARAM: 128KB, 16KB RAM, 20MHz, -40~85°C; PRICE: 5.5$; VALUE: ATMEGA1284
footprint DIP_40DW (DIP, pitch 2.54mm, 600mil Width)
pins: 1 PB0(PCINT8/XCK0/T0) (io), 2 PB1(PCINT9/CLKO/T1) (io), 3 PB2(PCINT10/INT2/AIN0) (io), 4 PB3(PCINT11/OC0A/AIN1) (io), 5 PB4(PCINT12/OC0B/~{SS}) (io), 6 PB5(PCINT13/ICP3/MOSI) (io), 7 PB6(PCINT14/OC3A/MISO) (io), 8 PB7(PCINT15/OC3B/SCK) (io), 9 ~{RESET} (in), 10 VCC (power), 11 GND (power), 12 XTAL2, 13 XTAL1, 14 PD0(PCINT24/RXD0/T3) (io), 15 PD1(PCINT25/TXD0) (io), 16 PD2(PCINT26/RXD1/INT0) (io), 17 PD3(PCINT27/TXD1/INT1) (io), 18 PD4(PCINT28/XCK1/OC1B) (io), 19 PD5(PCINT29/OC1A) (io), 20 PD6(PCINT30/OC2B/ICP) (io), 21 PD7(OC2A/PCINT31) (io), 22 PC0(SCL/PCINT16) (io), 23 PC1(SDA/PCINT17) (io), 24 PC2(TCK/PCINT18) (io), 25 PC3(TMS/PCINT19) (io), 26 PC4(TDO/PCINT20) (io), 27 PC5(TDI/PCINT21) (io), 28 PC6(TOSC1/PCINT22) (io), 29 PC7(TOSC2/PCINT23) (io), 30 AVCC (power), 31 GND (power), 32 AREF (power), 33 PA7(ADC7/PCINT7) (io), 34 PA6(ADC6/PCINT6) (io), 35 PA5(ADC5/PCINT5) (io), 36 PA4(ADC4/PCINT4) (io), 37 PA3(ADC3/PCINT3) (io), 38 PA2(ADC2/PCINT2) (io), 39 PA1(ADC1/PCINT1) (io), 40 PA0(ADC0/PCINT0) (io)
text: ATmega1284

## ATMEGA1284P_QFN44
designator U?, comment ATMEGA1284  (value not drawn)
MCU, AVR, 8-Bit, 128KB, 16KB RAM, 20MHz; MANF_P#: ATMEGA1284P-MU; DESC: 4KB EEPROM; MANF: ATMEL/MICROCHIP; PARAM2: 1.8~5.5V; PARAM: 128KB, 16KB RAM, 20MHz, -40~85°C; PRICE: 5.5$; VALUE: ATMEGA1284
footprint QFN50_44T (QFN-44, 44ML, pitch:0.5mm, 7x7x1mm)
pins: 1 PB5/PCINT13/ICP3/MOSI (io), 2 PB6/PCINT14/OC3A/MISO (io), 3 PB7/PCINT15/OC3B/SCK (io), 4 ~{RESET} (in), 5 VCC (power), 6 GND (power), 7 XTAL2, 8 XTAL1, 9 PD0/PCINT24/RXD0/T3 (io), 10 PD1/PCINT25/TXD0 (io), 11 PD2/PCINT26/RXD1/INT0 (io), 12 PD3/PCINT27/TXD1/INT1 (io), 13 PD4/PCINT28/XCK1/OC1B (io), 14 PD5/PCINT29/OC1A (io), 15 PD6/PCINT30/OC2B/ICP (io), 16 PD7/OC2A/PCINT31 (io), 17 VCC (power), 18 GND (power), 19 PC0/SCL/PCINT16 (io), 20 PC1/SDA/PCINT17 (io), 21 PC2/TCK/PCINT18 (io), 22 PC3/TMS/PCINT19 (io), 23 PC4/TDO/PCINT20 (io), 24 PC5/TDI/PCINT21 (io), 25 PC6/TOSC1/PCINT22 (io), 26 PC7/TOSC2/PCINT23 (io), 27 AVCC (power), 28 GND (power), 29 AREF (power), 30 PA7/ADC7/PCINT7 (io), 31 PA6/ADC6/PCINT6 (io), 32 PA5/ADC5/PCINT5 (io), 33 PA4/ADC4/PCINT4 (io), 34 PA3/ADC3/PCINT3 (io), 35 PA2/ADC2/PCINT2 (io), 36 PA1/ADC1/PCINT1 (io), 37 PA0/ADC0/PCINT0 (io), 38 VCC (power), 39 GND (power), 40 PB0/PCINT8/XCK0/T0 (io), 41 PB1/PCINT9/CLKO/T1 (io), 42 PB2/PCINT10/INT2/AIN0 (io), 43 PB3/PCINT11/OC0A/AIN1 (io), 44 PB4/PCINT12/OC0B/~{SS} (io), 45 EP (power)
text: ATmega1284

## ATMEGA1284P_QFP44
designator U?, comment ATMEGA1284  (value not drawn)
MCU, AVR, 8-Bit, 128KB, 16KB RAM, 20MHz; MANF_P#: ATMEGA1284P-AU; DESC: 4KB EEPROM; MANF: ATMEL/MICROCHIP; PARAM2: 1.8~5.5V; PARAM: 128KB, 16KB RAM, 20MHz, -40~85°C; PRICE: 5.5$; VALUE: ATMEGA1284
footprint QFG80_44 (TQFP44, PQFP44, A44 (Cypress), QFP44/MQFP44N (Dallas), VQ44,VQG44 (Xilinx), MS-026ACB, MS-022AB(JEDEC), 44A, 10.5X10.5, 0.8mm)
pins: 1 PB5/PCINT13/ICP3/MOSI (io), 2 PB6/PCINT14/OC3A/MISO (io), 3 PB7/PCINT15/OC3B/SCK (io), 4 ~{RESET} (in), 5 VCC (power), 6 GND (power), 7 XTAL2, 8 XTAL1, 9 PD0/PCINT24/RXD0/T3 (io), 10 PD1/PCINT25/TXD0 (io), 11 PD2/PCINT26/RXD1/INT0 (io), 12 PD3/PCINT27/TXD1/INT1 (io), 13 PD4/PCINT28/XCK1/OC1B (io), 14 PD5/PCINT29/OC1A (io), 15 PD6/PCINT30/OC2B/ICP (io), 16 PD7/OC2A/PCINT31 (io), 17 VCC (power), 18 GND (power), 19 PC0/SCL/PCINT16 (io), 20 PC1/SDA/PCINT17 (io), 21 PC2/TCK/PCINT18 (io), 22 PC3/TMS/PCINT19 (io), 23 PC4/TDO/PCINT20 (io), 24 PC5/TDI/PCINT21 (io), 25 PC6/TOSC1/PCINT22 (io), 26 PC7/TOSC2/PCINT23 (io), 27 AVCC (power), 28 GND (power), 29 AREF (power), 30 PA7/ADC7/PCINT7 (io), 31 PA6/ADC6/PCINT6 (io), 32 PA5/ADC5/PCINT5 (io), 33 PA4/ADC4/PCINT4 (io), 34 PA3/ADC3/PCINT3 (io), 35 PA2/ADC2/PCINT2 (io), 36 PA1/ADC1/PCINT1 (io), 37 PA0/ADC0/PCINT0 (io), 38 VCC (power), 39 GND (power), 40 PB0/PCINT8/XCK0/T0 (io), 41 PB1/PCINT9/CLKO/T1 (io), 42 PB2/PCINT10/INT2/AIN0 (io), 43 PB3/PCINT11/OC0A/AIN1 (io), 44 PB4/PCINT12/OC0B/~{SS} (io)
text: ATmega1284